# Altium integrated library Altera APEX 20K.IntLib: 93 symbols (part 8 of 14)
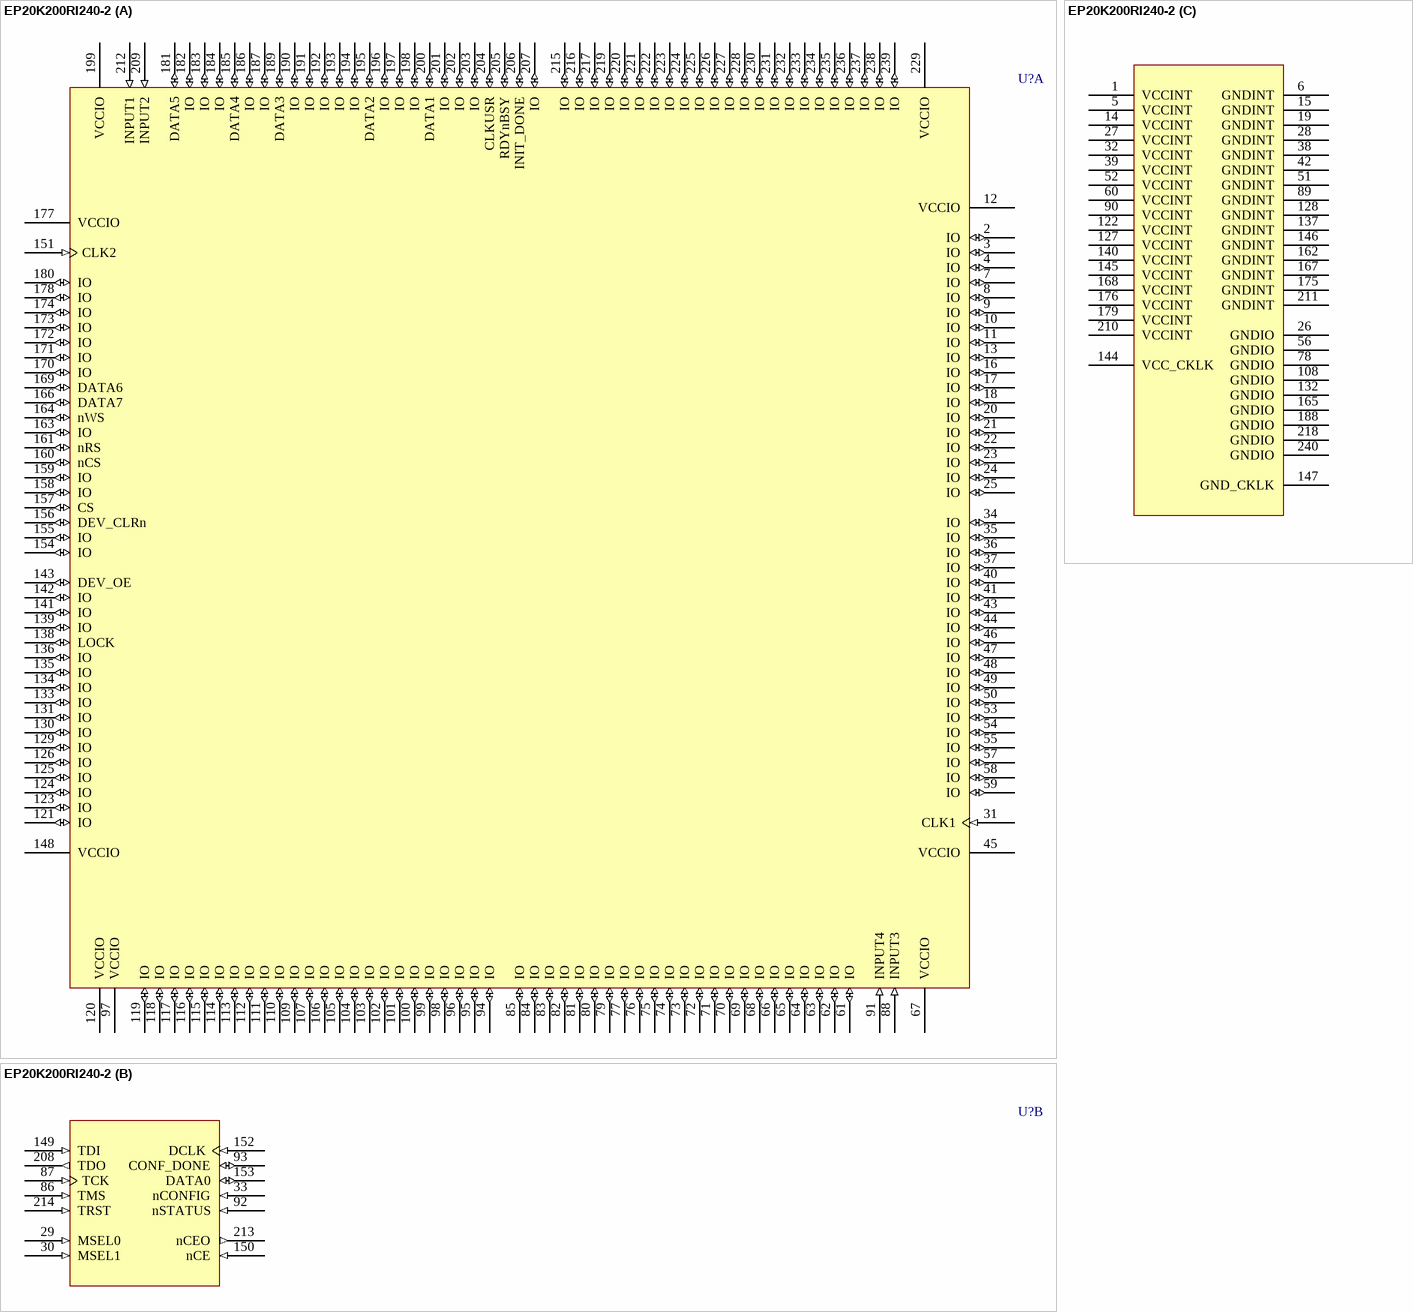
[diagram p209: symbol EP20K200RI240-2]

## EP20K200RI240-2
designator U?
APEX 20K200 PLD, 240-Pin RQFP, Industrial Grade, Speed Grade 2; Published: 17-Jul-2002; LatestRevisionDate: 13-Apr-2006; LatestRevisionNote: IPC-7351 Footprint Added.; DatasheetVersion: ver5.1, Mar-2004; PackageVersion: ver14.2, Oct-2005; PackageReference: RQFP240; Publisher: Altium Limited; PackageDescription: 240-Pin Power Quad Flat Pack (RQFP240); Code_JEDEC: MS-029-GA; ComponentLink1Description: Manufacturer Link; ComponentLink1URL: http://www.altera.com/products/devices/apex/apx-index.html; ComponentLink2Description: Datasheet; ComponentLink2URL: http://www.altera.com/literature/ds/apex.pdf
footprint RQFP240_N (Shrink QFP, 240-Leads, Body 32x32mm, Pitch 0.5mm, IPC Medium Density)
footprint RQFP240_L (Shrink QFP, 240-Leads, Body 32x32mm, Pitch 0.5mm, IPC High Density)
footprint RQFP240_M (Shrink QFP, 240-Leads, Body 32x32mm, Pitch 0.5mm, IPC Low Density)
3D model EP20K200-RQFP240 (240-Pin Power Quad Flat Pack (RQFP240))
part A pins: 2 IO (io), 3 IO (io), 4 IO (io), 7 IO (io), 8 IO (io), 9 IO (io), 10 IO (io), 11 IO (io), 12 VCCIO (power), 13 IO (io), 16 IO (io), 17 IO (io), 18 IO (io), 20 IO (io), 21 IO (io), 22 IO (io), 23 IO (io), 24 IO (io), 25 IO (io), 31 CLK1 (in), 34 IO (io), 35 IO (io), 36 IO (io), 37 IO (io), 40 IO (io), 41 IO (io), 43 IO (io), 44 IO (io), 45 VCCIO (power), 46 IO (io), 47 IO (io), 48 IO (io), 49 IO (io), 50 IO (io), 53 IO (io), 54 IO (io), 55 IO (io), 57 IO (io), 58 IO (io), 59 IO (io), 61 IO (io), 62 IO (io), 63 IO (io), 64 IO (io), 65 IO (io), 66 IO (io), 67 VCCIO (power), 68 IO (io), 69 IO (io), 70 IO (io), 71 IO (io), 72 IO (io), 73 IO (io), 74 IO (io), 75 IO (io), 76 IO (io), 77 IO (io), 79 IO (io), 80 IO (io), 81 IO (io), 82 IO (io), 83 IO (io), 84 IO (io), 85 IO (io), 88 INPUT3 (in), 91 INPUT4 (in), 94 IO (io), 95 IO (io), 96 IO (io), 97 VCCIO (power), 98 IO (io), 99 IO (io), 100 IO (io), 101 IO (io), 102 IO (io), 103 IO (io), 104 IO (io), 105 IO (io), 106 IO (io), 107 IO (io), 109 IO (io), 110 IO (io), 111 IO (io), 112 IO (io), 113 IO (io), 114 IO (io), 115 IO (io), 116 IO (io), 117 IO (io), 118 IO (io), 119 IO (io), 120 VCCIO (power), 121 IO (io), 123 IO (io), 124 IO (io), 125 IO (io), 126 IO (io), 129 IO (io), 130 IO (io), 131 IO (io), 133 IO (io), 134 IO (io), 135 IO (io), 136 IO (io), 138 LOCK (io), 139 IO (io), 141 IO (io), 142 IO (io), 143 DEV_OE (io), 148 VCCIO (power), 151 CLK2 (in), 154 IO (io), 155 IO (io), 156 DEV_CLRn (io), 157 CS (io), 158 IO (io), 159 IO (io), 160 nCS (io), 161 nRS (io), 163 IO (io), 164 nWS (io), 166 DATA7 (io), 169 DATA6 (io), 170 IO (io), 171 IO (io), 172 IO (io), 173 IO (io), 174 IO (io), 177 VCCIO (power), 178 IO (io), 180 IO (io), 181 DATA5 (io), 182 IO (io), 183 IO (io), 184 IO (io), 185 DATA4 (io), 186 IO (io), 187 IO (io), 189 DATA3 (io), 190 IO (io), 191 IO (io), 192 IO (io), 193 IO (io), 194 IO (io), 195 DATA2 (io), 196 IO (io), 197 IO (io), 198 IO (io), 199 VCCIO (power), 200 DATA1 (io), 201 IO (io), 202 IO (io), 203 IO (io), 204 CLKUSR (io), 205 RDYnBSY (io), 206 INIT_DONE (io), 207 IO (io), 209 INPUT2 (in), 212 INPUT1 (in), 215 IO (io), 216 IO (io), 217 IO (io), 219 IO (io), 220 IO (io), 221 IO (io), 222 IO (io), 223 IO (io), 224 IO (io), 225 IO (io), 226 IO (io), 227 IO (io), 228 IO (io), 229 VCCIO (power), 230 IO (io), 231 IO (io), 232 IO (io), 233 IO (io), 234 IO (io), 235 IO (io), 236 IO (io), 237 IO (io), 238 IO (io), 239 IO (io)
part B pins: 29 MSEL0 (in), 30 MSEL1 (in), 33 nCONFIG (in), 86 TMS (in), 87 TCK (in), 92 nSTATUS (in), 93 CONF_DONE (io), 149 TDI (in), 150 nCE (in), 152 DCLK (in), 153 DATA0 (io), 208 TDO (out), 213 nCEO (out), 214 TRST (in)
part C pins: 1 VCCINT (power), 5 VCCINT (power), 6 GNDINT (power), 14 VCCINT (power), 15 GNDINT (power), 19 GNDINT (power), 26 GNDIO (power), 27 VCCINT (power), 28 GNDINT (power), 32 VCCINT (power), 38 GNDINT (power), 39 VCCINT (power), 42 GNDINT (power), 51 GNDINT (power), 52 VCCINT (power), 56 GNDIO (power), 60 VCCINT (power), 78 GNDIO (power), 89 GNDINT (power), 90 VCCINT (power), 108 GNDIO (power), 122 VCCINT (power), 127 VCCINT (power), 128 GNDINT (power), 132 GNDIO (power), 137 GNDINT (power), 140 VCCINT (power), 144 VCC_CKLK (power), 145 VCCINT (power), 146 GNDINT (power), 147 GND_CKLK (power), 162 GNDINT (power), 165 GNDIO (power), 167 GNDINT (power), 168 VCCINT (power), 175 GNDINT (power), 176 VCCINT (power), 179 VCCINT (power), 188 GNDIO (power), 210 VCCINT (power), 211 GNDINT (power), 218 GNDIO (power), 240 GNDIO (power)

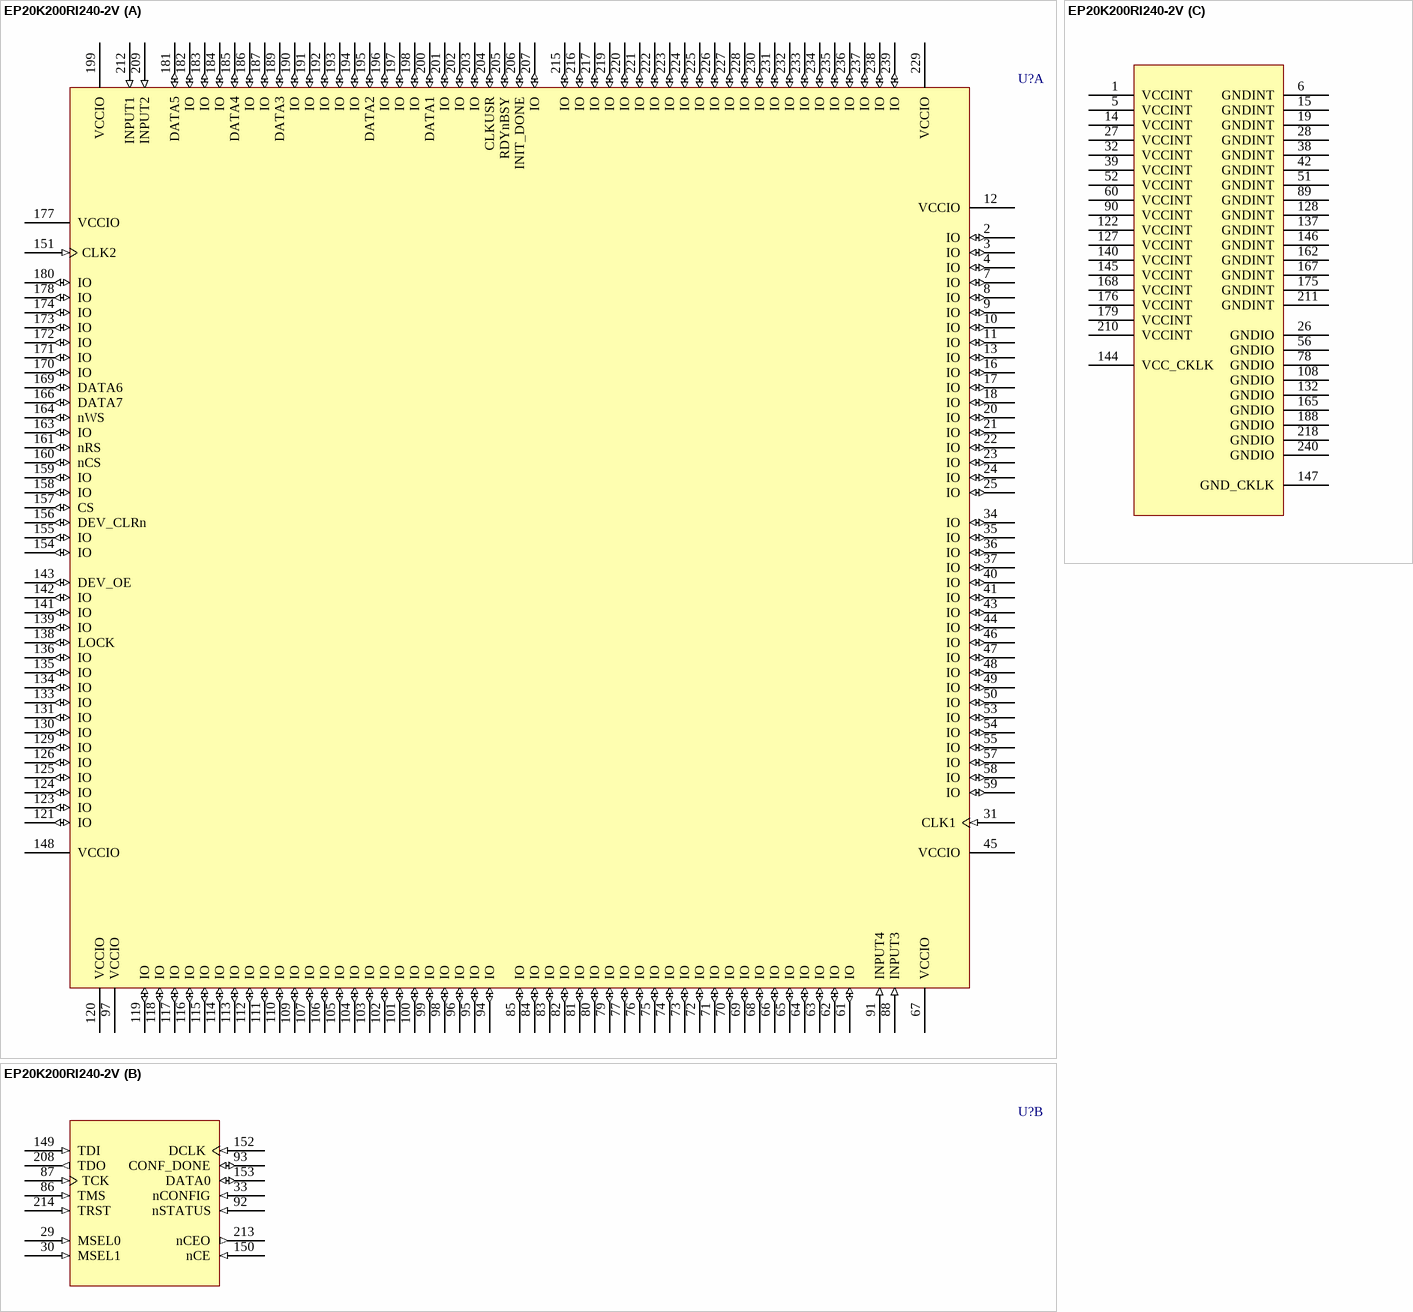
[diagram p87: symbol EP20K200RI240-2V]

## EP20K200RI240-2V
designator U?
APEX 20K200  PLD with 5 V tolerant inputs, 240-Pin RQFP, Industrial Grade, Speed Grade 2; ComponentAvailability: Last order accepted - 22-Jul-2005; Published: 17-Jul-2002; LatestRevisionDate: 13-Apr-2006; LatestRevisionNote: IPC-7351 Footprint Added.; DatasheetVersion: ver5.1, Mar-2004; PackageVersion: ver14.2, Oct-2005; PackageReference: RQFP240; Publisher: Altium Limited; PackageDescription: 240-Pin Power Quad Flat Pack (RQFP240); Code_JEDEC: MS-029-GA; ComponentLink1Description: Manufacturer Link; ComponentLink1URL: http://www.altera.com/products/devices/apex/apx-index.html; ComponentLink2Description: Datasheet; ComponentLink2URL: http://www.altera.com/literature/ds/apex.pdf; ComponentLink3Description: Discontinuation Notice; ComponentLink3URL: http://www.altera.com/literature/pcn/pdn0401.pdf
footprint RQFP240_N (Shrink QFP, 240-Leads, Body 32x32mm, Pitch 0.5mm, IPC Medium Density)
footprint RQFP240_L (Shrink QFP, 240-Leads, Body 32x32mm, Pitch 0.5mm, IPC High Density)
footprint RQFP240_M (Shrink QFP, 240-Leads, Body 32x32mm, Pitch 0.5mm, IPC Low Density)
3D model EP20K200-RQFP240 (240-Pin Power Quad Flat Pack (RQFP240))
part A pins: 2 IO (io), 3 IO (io), 4 IO (io), 7 IO (io), 8 IO (io), 9 IO (io), 10 IO (io), 11 IO (io), 12 VCCIO (power), 13 IO (io), 16 IO (io), 17 IO (io), 18 IO (io), 20 IO (io), 21 IO (io), 22 IO (io), 23 IO (io), 24 IO (io), 25 IO (io), 31 CLK1 (in), 34 IO (io), 35 IO (io), 36 IO (io), 37 IO (io), 40 IO (io), 41 IO (io), 43 IO (io), 44 IO (io), 45 VCCIO (power), 46 IO (io), 47 IO (io), 48 IO (io), 49 IO (io), 50 IO (io), 53 IO (io), 54 IO (io), 55 IO (io), 57 IO (io), 58 IO (io), 59 IO (io), 61 IO (io), 62 IO (io), 63 IO (io), 64 IO (io), 65 IO (io), 66 IO (io), 67 VCCIO (power), 68 IO (io), 69 IO (io), 70 IO (io), 71 IO (io), 72 IO (io), 73 IO (io), 74 IO (io), 75 IO (io), 76 IO (io), 77 IO (io), 79 IO (io), 80 IO (io), 81 IO (io), 82 IO (io), 83 IO (io), 84 IO (io), 85 IO (io), 88 INPUT3 (in), 91 INPUT4 (in), 94 IO (io), 95 IO (io), 96 IO (io), 97 VCCIO (power), 98 IO (io), 99 IO (io), 100 IO (io), 101 IO (io), 102 IO (io), 103 IO (io), 104 IO (io), 105 IO (io), 106 IO (io), 107 IO (io), 109 IO (io), 110 IO (io), 111 IO (io), 112 IO (io), 113 IO (io), 114 IO (io), 115 IO (io), 116 IO (io), 117 IO (io), 118 IO (io), 119 IO (io), 120 VCCIO (power), 121 IO (io), 123 IO (io), 124 IO (io), 125 IO (io), 126 IO (io), 129 IO (io), 130 IO (io), 131 IO (io), 133 IO (io), 134 IO (io), 135 IO (io), 136 IO (io), 138 LOCK (io), 139 IO (io), 141 IO (io), 142 IO (io), 143 DEV_OE (io), 148 VCCIO (power), 151 CLK2 (in), 154 IO (io), 155 IO (io), 156 DEV_CLRn (io), 157 CS (io), 158 IO (io), 159 IO (io), 160 nCS (io), 161 nRS (io), 163 IO (io), 164 nWS (io), 166 DATA7 (io), 169 DATA6 (io), 170 IO (io), 171 IO (io), 172 IO (io), 173 IO (io), 174 IO (io), 177 VCCIO (power), 178 IO (io), 180 IO (io), 181 DATA5 (io), 182 IO (io), 183 IO (io), 184 IO (io), 185 DATA4 (io), 186 IO (io), 187 IO (io), 189 DATA3 (io), 190 IO (io), 191 IO (io), 192 IO (io), 193 IO (io), 194 IO (io), 195 DATA2 (io), 196 IO (io), 197 IO (io), 198 IO (io), 199 VCCIO (power), 200 DATA1 (io), 201 IO (io), 202 IO (io), 203 IO (io), 204 CLKUSR (io), 205 RDYnBSY (io), 206 INIT_DONE (io), 207 IO (io), 209 INPUT2 (in), 212 INPUT1 (in), 215 IO (io), 216 IO (io), 217 IO (io), 219 IO (io), 220 IO (io), 221 IO (io), 222 IO (io), 223 IO (io), 224 IO (io), 225 IO (io), 226 IO (io), 227 IO (io), 228 IO (io), 229 VCCIO (power), 230 IO (io), 231 IO (io), 232 IO (io), 233 IO (io), 234 IO (io), 235 IO (io), 236 IO (io), 237 IO (io), 238 IO (io), 239 IO (io)
part B pins: 29 MSEL0 (in), 30 MSEL1 (in), 33 nCONFIG (in), 86 TMS (in), 87 TCK (in), 92 nSTATUS (in), 93 CONF_DONE (io), 149 TDI (in), 150 nCE (in), 152 DCLK (in), 153 DATA0 (io), 208 TDO (out), 213 nCEO (out), 214 TRST (in)
part C pins: 1 VCCINT (power), 5 VCCINT (power), 6 GNDINT (power), 14 VCCINT (power), 15 GNDINT (power), 19 GNDINT (power), 26 GNDIO (power), 27 VCCINT (power), 28 GNDINT (power), 32 VCCINT (power), 38 GNDINT (power), 39 VCCINT (power), 42 GNDINT (power), 51 GNDINT (power), 52 VCCINT (power), 56 GNDIO (power), 60 VCCINT (power), 78 GNDIO (power), 89 GNDINT (power), 90 VCCINT (power), 108 GNDIO (power), 122 VCCINT (power), 127 VCCINT (power), 128 GNDINT (power), 132 GNDIO (power), 137 GNDINT (power), 140 VCCINT (power), 144 VCC_CKLK (power), 145 VCCINT (power), 146 GNDINT (power), 147 GND_CKLK (power), 162 GNDINT (power), 165 GNDIO (power), 167 GNDINT (power), 168 VCCINT (power), 175 GNDINT (power), 176 VCCINT (power), 179 VCCINT (power), 188 GNDIO (power), 210 VCCINT (power), 211 GNDINT (power), 218 GNDIO (power), 240 GNDIO (power)

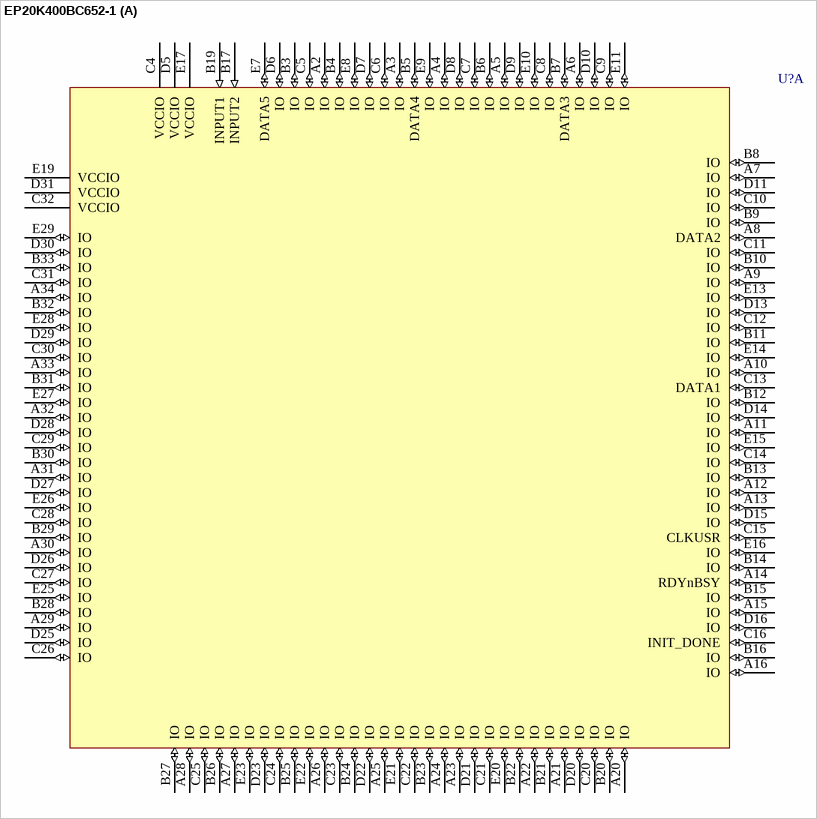
[diagram p88: symbol EP20K400BC652-1]

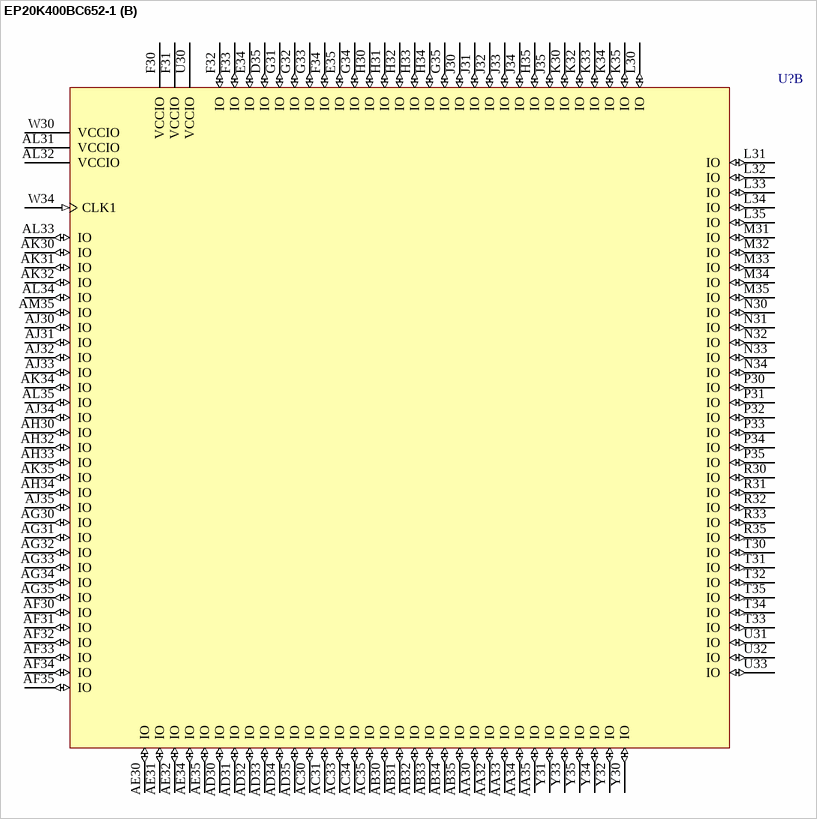
[diagram p89: symbol EP20K400BC652-1]

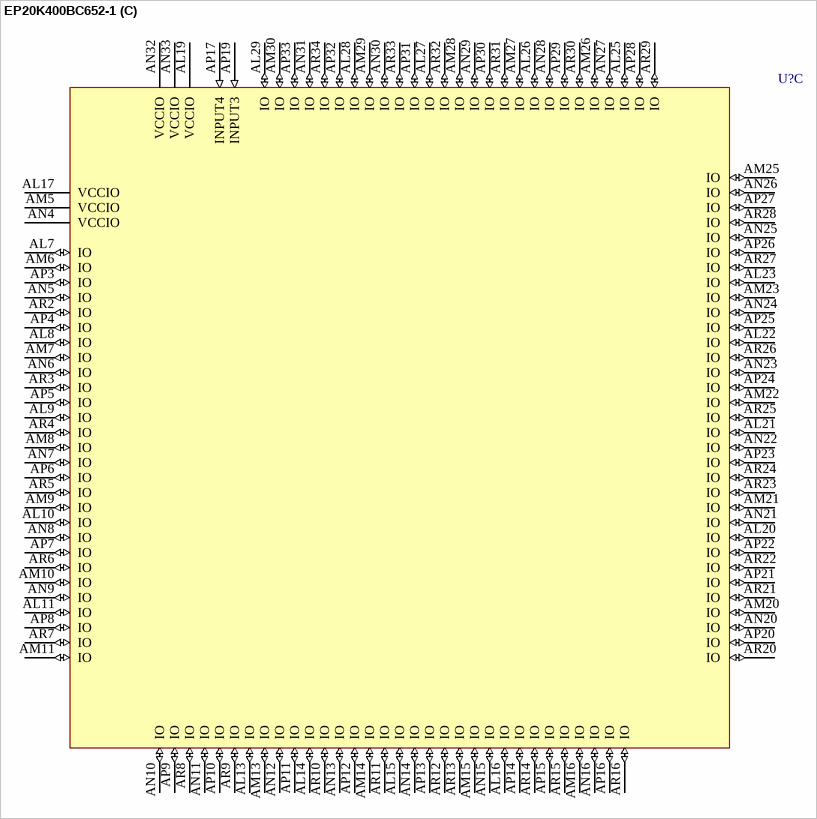
[diagram p90: symbol EP20K400BC652-1]

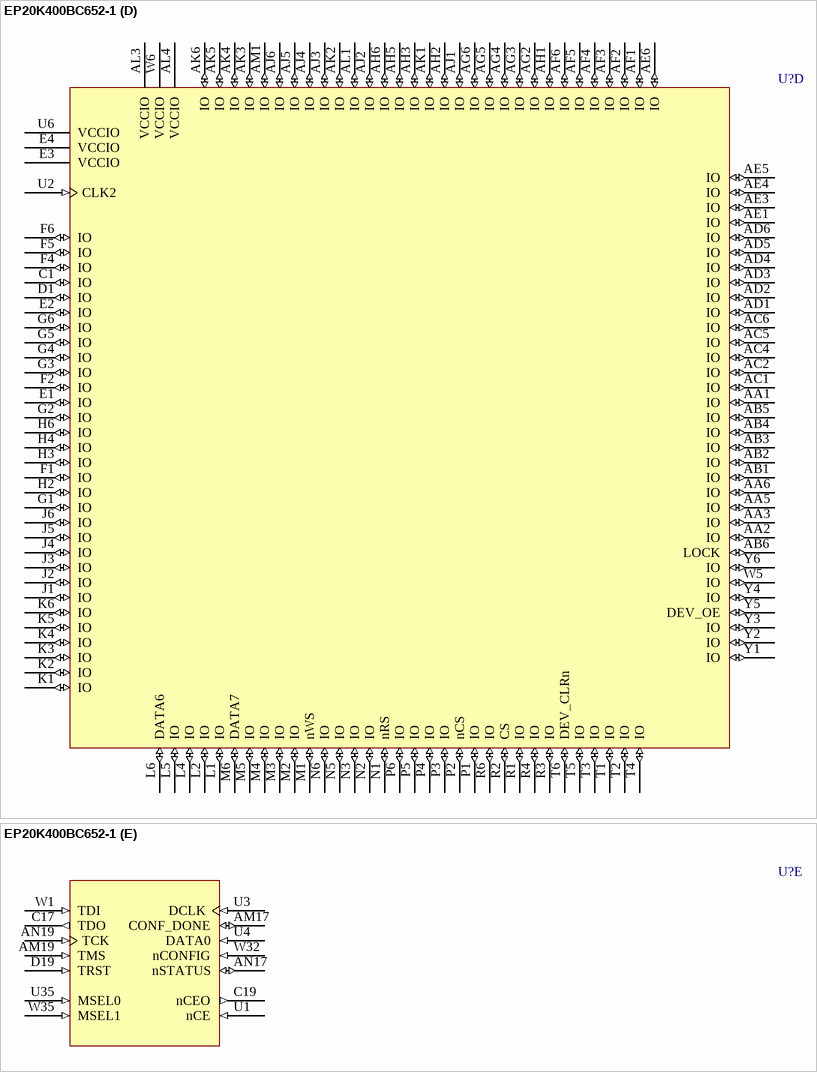
[diagram p91: symbol EP20K400BC652-1]

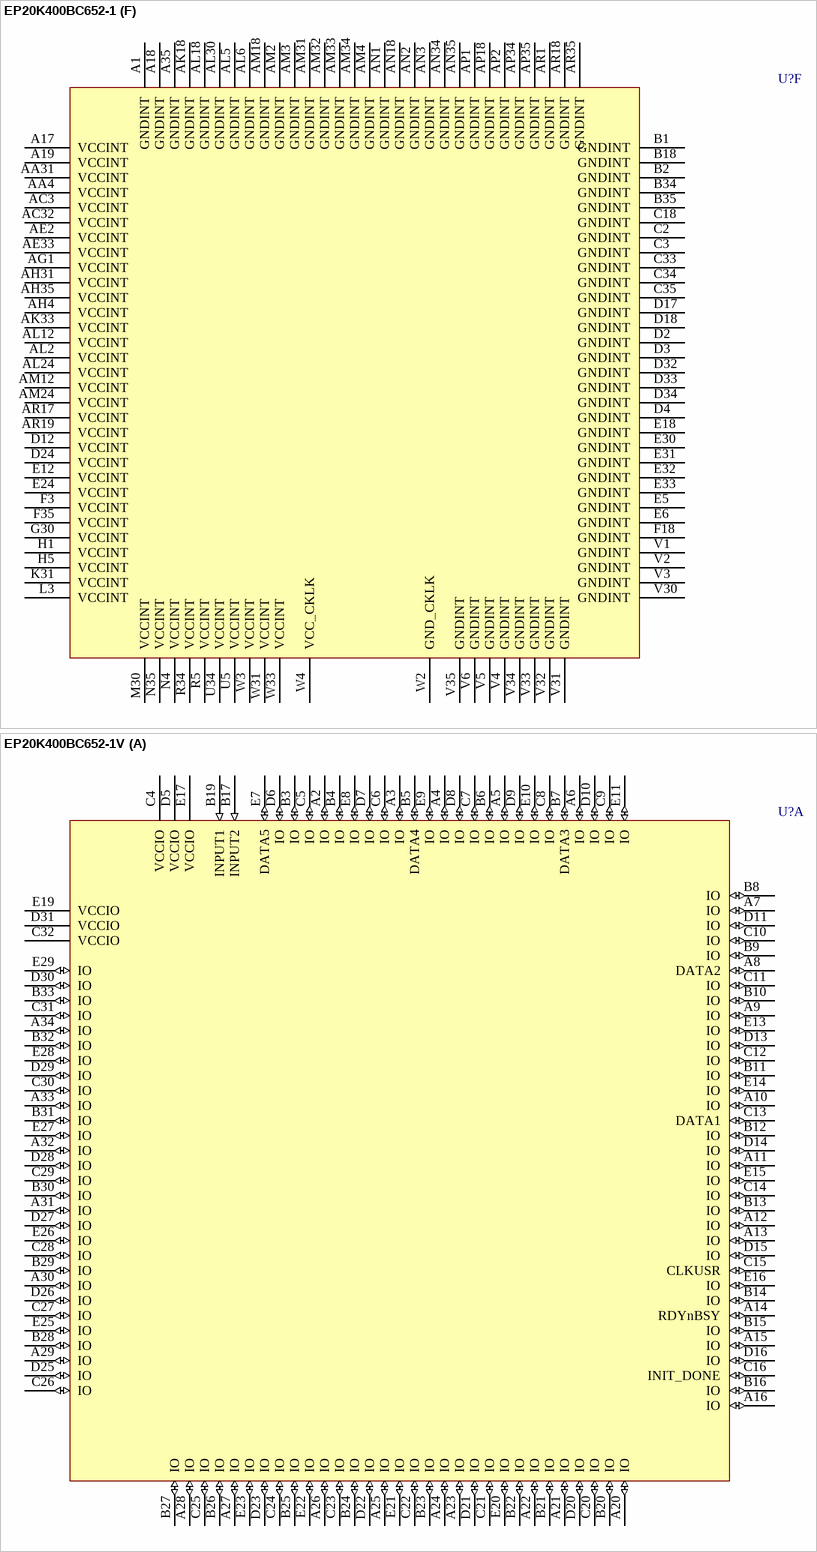
[diagram p92: symbols EP20K400BC652-1 to EP20K400BC652-1V]

## EP20K400BC652-1
designator U?
APEX 20K400 PLD, 652-Pin BGA, Commercial Grade, Speed Grade 1; Published: 17-Jul-2002; LatestRevisionDate: 13-Apr-2006; LatestRevisionNote: IPC-7351 Footprint Added.; DatasheetVersion: ver5.1, Mar-2004; PackageVersion: ver14.2, Oct-2005; PackageReference: BGA652; Publisher: Altium Limited; PackageDescription: 652-Ball Ball Grid Array (BGA652), Option 1 - Flip Chip; Code_JEDEC: MO-192-BAW-1; ComponentLink1Description: Manufacturer Link; ComponentLink1URL: http://www.altera.com/products/devices/apex/apx-index.html; ComponentLink2Description: Datasheet; ComponentLink2URL: http://www.altera.com/literature/ds/apex.pdf
footprint BGA652 (BGA, 652-Leads, Body 45x45mm, Pitch 1.27mm)
3D model EP20K400-BGA652TD (652-Ball Ball Grid Array (BGA652), Option 1 - Flip Chip)
part A pins: A2 IO (io), A3 IO (io), A4 IO (io), A5 IO (io), A6 IO (io), A7 IO (io), A8 DATA2 (io), A9 IO (io), A10 IO (io), A11 IO (io), A12 IO (io), A13 IO (io), A14 RDYnBSY (io), A15 IO (io), A16 IO (io), A20 IO (io), A21 IO (io), A22 IO (io), A23 IO (io), A24 IO (io), A25 IO (io), A26 IO (io), A27 IO (io), A28 IO (io), A29 IO (io), A30 IO (io), A31 IO (io), A32 IO (io), A33 IO (io), A34 IO (io), B3 IO (io), B4 IO (io), B5 DATA4 (io), B6 IO (io), B7 DATA3 (io), B8 IO (io), B9 IO (io), B10 IO (io), B11 IO (io), B12 IO (io), B13 IO (io), B14 IO (io), B15 IO (io), B16 IO (io), B17 INPUT2 (in), B19 INPUT1 (in), B20 IO (io), B21 IO (io), B22 IO (io), B23 IO (io), B24 IO (io), B25 IO (io), B26 IO (io), B27 IO (io), B28 IO (io), B29 IO (io), B30 IO (io), B31 IO (io), B32 IO (io), B33 IO (io), C4 VCCIO (power), C5 IO (io), C6 IO (io), C7 IO (io), C8 IO (io), C9 IO (io), C10 IO (io), C11 IO (io), C12 IO (io), C13 DATA1 (io), C14 IO (io), C15 CLKUSR (io), C16 INIT_DONE (io), C20 IO (io), C21 IO (io), C22 IO (io), C23 IO (io), C24 IO (io), C25 IO (io), C26 IO (io), C27 IO (io), C28 IO (io), C29 IO (io), C30 IO (io), C31 IO (io), C32 VCCIO (power), D5 VCCIO (power), D6 IO (io), D7 IO (io), D8 IO (io), D9 IO (io), D10 IO (io), D11 IO (io), D13 IO (io), D14 IO (io), D15 IO (io), D16 IO (io), D20 IO (io), D21 IO (io), D22 IO (io), D23 IO (io), D25 IO (io), D26 IO (io), D27 IO (io), D28 IO (io), D29 IO (io), D30 IO (io), D31 VCCIO (power), E7 DATA5 (io), E8 IO (io), E9 IO (io), E10 IO (io), E11 IO (io), E13 IO (io), E14 IO (io), E15 IO (io), E16 IO (io), E17 VCCIO (power), E19 VCCIO (power), E20 IO (io), E21 IO (io), E22 IO (io), E23 IO (io), E25 IO (io), E26 IO (io), E27 IO (io), E28 IO (io), E29 IO (io)
part B pins: AA30 IO (io), AA32 IO (io), AA33 IO (io), AA34 IO (io), AA35 IO (io), AB30 IO (io), AB31 IO (io), AB32 IO (io), AB33 IO (io), AB34 IO (io), AB35 IO (io), AC30 IO (io), AC31 IO (io), AC33 IO (io), AC34 IO (io), AC35 IO (io), AD30 IO (io), AD31 IO (io), AD32 IO (io), AD33 IO (io), AD34 IO (io), AD35 IO (io), AE30 IO (io), AE31 IO (io), AE32 IO (io), AE34 IO (io), AE35 IO (io), AF30 IO (io), AF31 IO (io), AF32 IO (io), AF33 IO (io), AF34 IO (io), AF35 IO (io), AG30 IO (io), AG31 IO (io), AG32 IO (io), AG33 IO (io), AG34 IO (io), AG35 IO (io), AH30 IO (io), AH32 IO (io), AH33 IO (io), AH34 IO (io), AJ30 IO (io), AJ31 IO (io), AJ32 IO (io), AJ33 IO (io), AJ34 IO (io), AJ35 IO (io), AK30 IO (io), AK31 IO (io), AK32 IO (io), AK34 IO (io), AK35 IO (io), AL31 VCCIO (power), AL32 VCCIO (power), AL33 IO (io), AL34 IO (io), AL35 IO (io), AM35 IO (io), D35 IO (io), E34 IO (io), E35 IO (io), F30 VCCIO (power), F31 VCCIO (power), F32 IO (io), F33 IO (io), F34 IO (io), G31 IO (io), G32 IO (io), G33 IO (io), G34 IO (io), G35 IO (io), H30 IO (io), H31 IO (io), H32 IO (io), H33 IO (io), H34 IO (io), H35 IO (io), J30 IO (io), J31 IO (io), J32 IO (io), J33 IO (io), J34 IO (io), J35 IO (io), K30 IO (io), K32 IO (io), K33 IO (io), K34 IO (io), K35 IO (io), L30 IO (io), L31 IO (io), L32 IO (io), L33 IO (io), L34 IO (io), L35 IO (io), M31 IO (io), M32 IO (io), M33 IO (io), M34 IO (io), M35 IO (io), N30 IO (io), N31 IO (io), N32 IO (io), N33 IO (io), N34 IO (io), P30 IO (io), P31 IO (io), P32 IO (io), P33 IO (io), P34 IO (io), P35 IO (io), R30 IO (io), R31 IO (io), R32 IO (io), R33 IO (io), R35 IO (io), T30 IO (io), T31 IO (io), T32 IO (io), T33 IO (io), T34 IO (io), T35 IO (io), U30 VCCIO (power), U31 IO (io), U32 IO (io), U33 IO (io), W30 VCCIO (power), W34 CLK1 (in), Y30 IO (io), Y31 IO (io), Y32 IO (io), Y33 IO (io), Y34 IO (io), Y35 IO (io)
part C pins: AL7 IO (io), AL8 IO (io), AL9 IO (io), AL10 IO (io), AL11 IO (io), AL13 IO (io), AL14 IO (io), AL15 IO (io), AL16 IO (io), AL17 VCCIO (power), AL19 VCCIO (power), AL20 IO (io), AL21 IO (io), AL22 IO (io), AL23 IO (io), AL25 IO (io), AL26 IO (io), AL27 IO (io), AL28 IO (io), AL29 IO (io), AM5 VCCIO (power), AM6 IO (io), AM7 IO (io), AM8 IO (io), AM9 IO (io), AM10 IO (io), AM11 IO (io), AM13 IO (io), AM14 IO (io), AM15 IO (io), AM16 IO (io), AM20 IO (io), AM21 IO (io), AM22 IO (io), AM23 IO (io), AM25 IO (io), AM26 IO (io), AM27 IO (io), AM28 IO (io), AM29 IO (io), AM30 IO (io), AN4 VCCIO (power), AN5 IO (io), AN6 IO (io), AN7 IO (io), AN8 IO (io), AN9 IO (io), AN10 IO (io), AN11 IO (io), AN12 IO (io), AN13 IO (io), AN14 IO (io), AN15 IO (io), AN16 IO (io), AN20 IO (io), AN21 IO (io), AN22 IO (io), AN23 IO (io), AN24 IO (io), AN25 IO (io), AN26 IO (io), AN27 IO (io), AN28 IO (io), AN29 IO (io), AN30 IO (io), AN31 IO (io), AN32 VCCIO (power), AN33 VCCIO (power), AP3 IO (io), AP4 IO (io), AP5 IO (io), AP6 IO (io), AP7 IO (io), AP8 IO (io), AP9 IO (io), AP10 IO (io), AP11 IO (io), AP12 IO (io), AP13 IO (io), AP14 IO (io), AP15 IO (io), AP16 IO (io), AP17 INPUT4 (in), AP19 INPUT3 (in), AP20 IO (io), AP21 IO (io), AP22 IO (io), AP23 IO (io), AP24 IO (io), AP25 IO (io), AP26 IO (io), AP27 IO (io), AP28 IO (io), AP29 IO (io), AP30 IO (io), AP31 IO (io), AP32 IO (io), AP33 IO (io), AR2 IO (io), AR3 IO (io), AR4 IO (io), AR5 IO (io), AR6 IO (io), AR7 IO (io), AR8 IO (io), AR9 IO (io), AR10 IO (io), AR11 IO (io), AR12 IO (io), AR13 IO (io), AR14 IO (io), AR15 IO (io), AR16 IO (io), AR20 IO (io), AR21 IO (io), AR22 IO (io), AR23 IO (io), AR24 IO (io), AR25 IO (io), AR26 IO (io), AR27 IO (io), AR28 IO (io), AR29 IO (io), AR30 IO (io), AR31 IO (io), AR32 IO (io), AR33 IO (io), AR34 IO (io)
part D pins: AA1 IO (io), AA2 IO (io), AA3 IO (io), AA5 IO (io), AA6 IO (io), AB1 IO (io), AB2 IO (io), AB3 IO (io), AB4 IO (io), AB5 IO (io), AB6 LOCK (io), AC1 IO (io), AC2 IO (io), AC4 IO (io), AC5 IO (io), AC6 IO (io), AD1 IO (io), AD2 IO (io), AD3 IO (io), AD4 IO (io), AD5 IO (io), AD6 IO (io), AE1 IO (io), AE3 IO (io), AE4 IO (io), AE5 IO (io), AE6 IO (io), AF1 IO (io), AF2 IO (io), AF3 IO (io), AF4 IO (io), AF5 IO (io), AF6 IO (io), AG2 IO (io), AG3 IO (io), AG4 IO (io), AG5 IO (io), AG6 IO (io), AH1 IO (io), AH2 IO (io), AH3 IO (io), AH5 IO (io), AH6 IO (io), AJ1 IO (io), AJ2 IO (io), AJ3 IO (io), AJ4 IO (io), AJ5 IO (io), AJ6 IO (io), AK1 IO (io), AK2 IO (io), AK3 IO (io), AK4 IO (io), AK5 IO (io), AK6 IO (io), AL1 IO (io), AL3 VCCIO (power), AL4 VCCIO (power), AM1 IO (io), C1 IO (io), D1 IO (io), E1 IO (io), E2 IO (io), E3 VCCIO (power), E4 VCCIO (power), F1 IO (io), F2 IO (io), F4 IO (io), F5 IO (io), F6 IO (io), G1 IO (io), G2 IO (io), G3 IO (io), G4 IO (io), G5 IO (io), G6 IO (io), H2 IO (io), H3 IO (io), H4 IO (io), H6 IO (io), J1 IO (io), J2 IO (io), J3 IO (io), J4 IO (io), J5 IO (io), J6 IO (io), K1 IO (io), K2 IO (io), K3 IO (io), K4 IO (io), K5 IO (io), K6 IO (io), L1 IO (io), L2 IO (io), L4 IO (io), L5 IO (io), L6 DATA6 (io), M1 nWS (io), M2 IO (io), M3 IO (io), M4 IO (io), M5 IO (io), M6 DATA7 (io), N1 nRS (io), N2 IO (io), N3 IO (io), N5 IO (io), N6 IO (io), P1 IO (io), P2 nCS (io), P3 IO (io), P4 IO (io), P5 IO (io), P6 IO (io), R1 IO (io), R2 CS (io), R3 IO (io), R4 IO (io), R6 IO (io), T1 IO (io), T2 IO (io), T3 IO (io), T4 IO (io), T5 IO (io), T6 DEV_CLRn (io), U2 CLK2 (in), U6 VCCIO (power), W5 IO (io), W6 VCCIO (power), Y1 IO (io), Y2 IO (io), Y3 IO (io), Y4 IO (io), Y5 DEV_OE (io), Y6 IO (io)
part E pins: AM17 CONF_DONE (io), AM19 TMS (in), AN17 nSTATUS (io), AN19 TCK (in), C17 TDO (out), C19 nCEO (out), D19 TRST (in), U1 nCE (in), U3 DCLK (in), U4 DATA0 (in), U35 MSEL0 (in), W1 TDI (in), W32 nCONFIG (in), W35 MSEL1 (in)
part F pins: A1 GNDINT (power), A17 VCCINT (power), A18 GNDINT (power), A19 VCCINT (power), A35 GNDINT (power), AA4 VCCINT (power), AA31 VCCINT (power), AC3 VCCINT (power), AC32 VCCINT (power), AE2 VCCINT (power), AE33 VCCINT (power), AG1 VCCINT (power), AH4 VCCINT (power), AH31 VCCINT (power), AH35 VCCINT (power), AK18 GNDINT (power), AK33 VCCINT (power), AL2 VCCINT (power), AL5 GNDINT (power), AL6 GNDINT (power), AL12 VCCINT (power), AL18 GNDINT (power), AL24 VCCINT (power), AL30 GNDINT (power), AM2 GNDINT (power), AM3 GNDINT (power), AM4 GNDINT (power), AM12 VCCINT (power), AM18 GNDINT (power), AM24 VCCINT (power), AM31 GNDINT (power), AM32 GNDINT (power), AM33 GNDINT (power), AM34 GNDINT (power), AN1 GNDINT (power), AN2 GNDINT (power), AN3 GNDINT (power), AN18 GNDINT (power), AN34 GNDINT (power), AN35 GNDINT (power), AP1 GNDINT (power), AP2 GNDINT (power), AP18 GNDINT (power), AP34 GNDINT (power), AP35 GNDINT (power), AR1 GNDINT (power), AR17 VCCINT (power), AR18 GNDINT (power), AR19 VCCINT (power), AR35 GNDINT (power), B1 GNDINT (power), B2 GNDINT (power), B18 GNDINT (power), B34 GNDINT (power), B35 GNDINT (power), C2 GNDINT (power), C3 GNDINT (power), C18 GNDINT (power), C33 GNDINT (power), C34 GNDINT (power), C35 GNDINT (power), D2 GNDINT (power), D3 GNDINT (power), D4 GNDINT (power), D12 VCCINT (power), D17 GNDINT (power), D18 GNDINT (power), D24 VCCINT (power), D32 GNDINT (power), D33 GNDINT (power), D34 GNDINT (power), E5 GNDINT (power), E6 GNDINT (power), E12 VCCINT (power), E18 GNDINT (power), E24 VCCINT (power), E30 GNDINT (power), E31 GNDINT (power), E32 GNDINT (power), E33 GNDINT (power), F3 VCCINT (power), F18 GNDINT (power), F35 VCCINT (power), G30 VCCINT (power), H1 VCCINT (power), H5 VCCINT (power), K31 VCCINT (power), L3 VCCINT (power), M30 VCCINT (power), N4 VCCINT (power), N35 VCCINT (power), R5 VCCINT (power), R34 VCCINT (power), U5 VCCINT (power), U34 VCCINT (power), V1 GNDINT (power), V2 GNDINT (power), V3 GNDINT (power), V4 GNDINT (power), V5 GNDINT (power), V6 GNDINT (power), V30 GNDINT (power), V31 GNDINT (power), V32 GNDINT (power), V33 GNDINT (power), V34 GNDINT (power), V35 GNDINT (power), W2 GND_CKLK (power), W3 VCCINT (power), W4 VCC_CKLK (power), W31 VCCINT (power), W33 VCCINT (power)

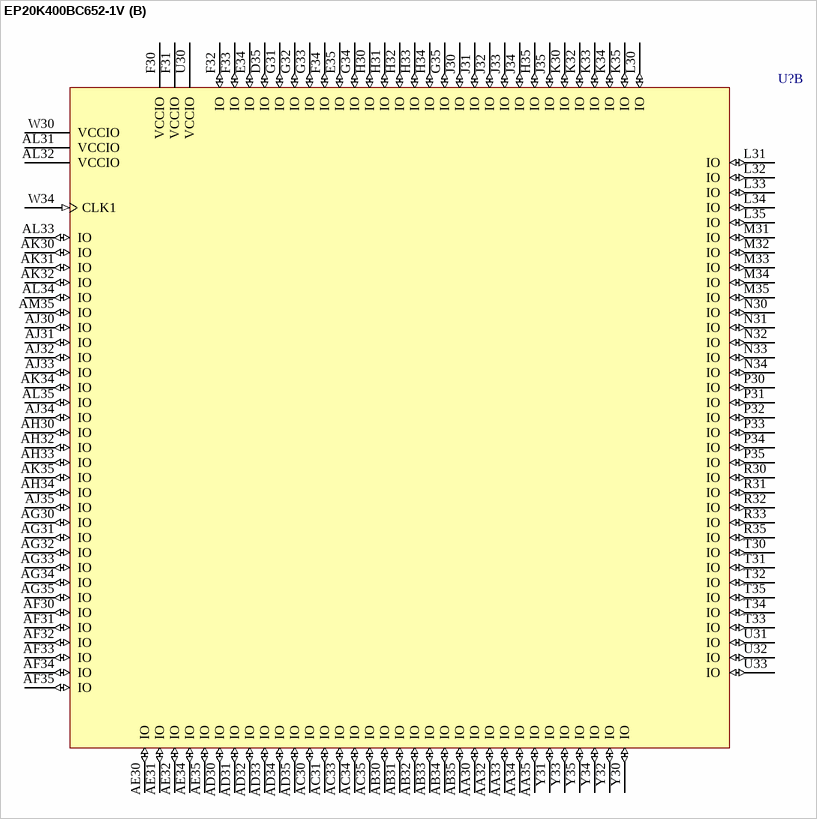
[diagram p93: symbol EP20K400BC652-1V]

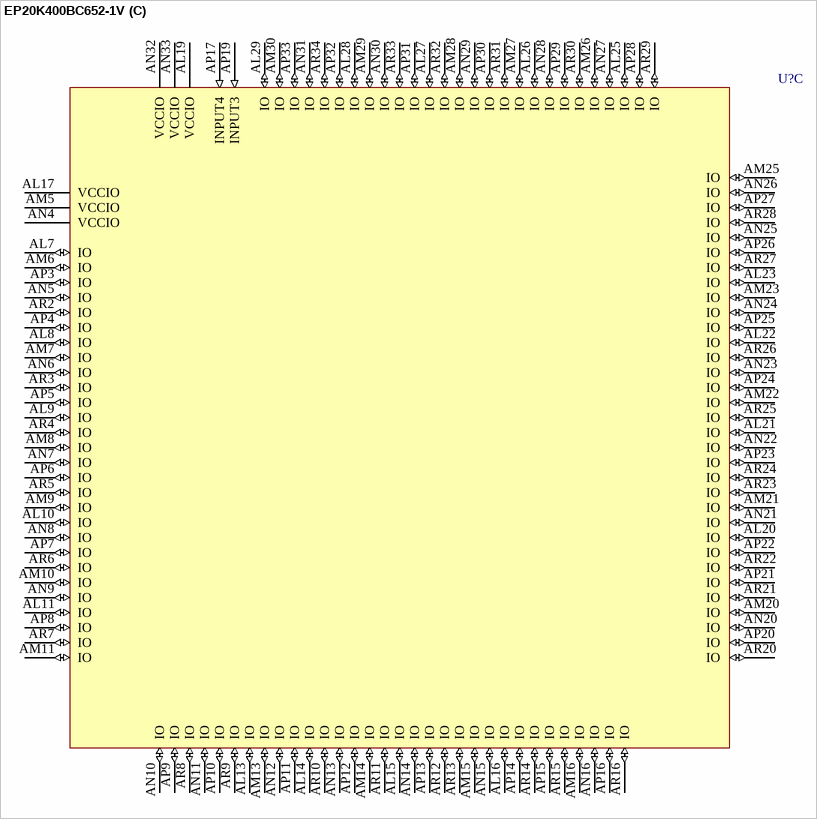
[diagram p94: symbol EP20K400BC652-1V]

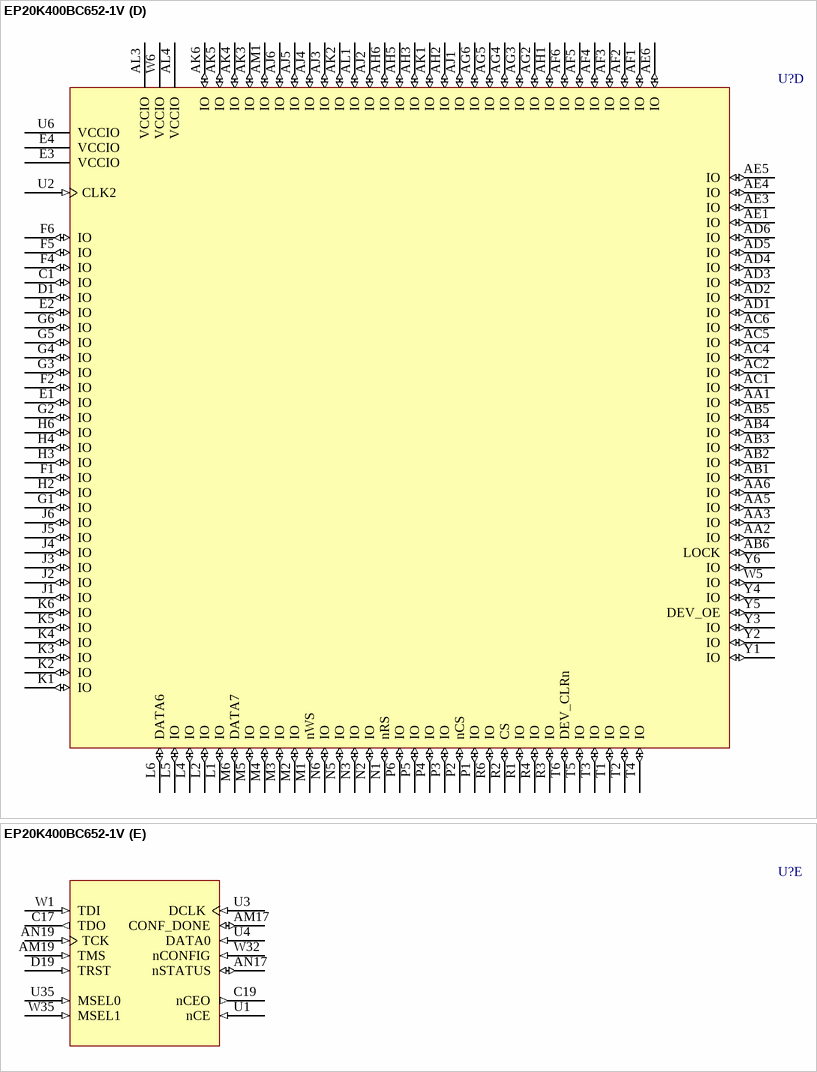
[diagram p95: symbol EP20K400BC652-1V]

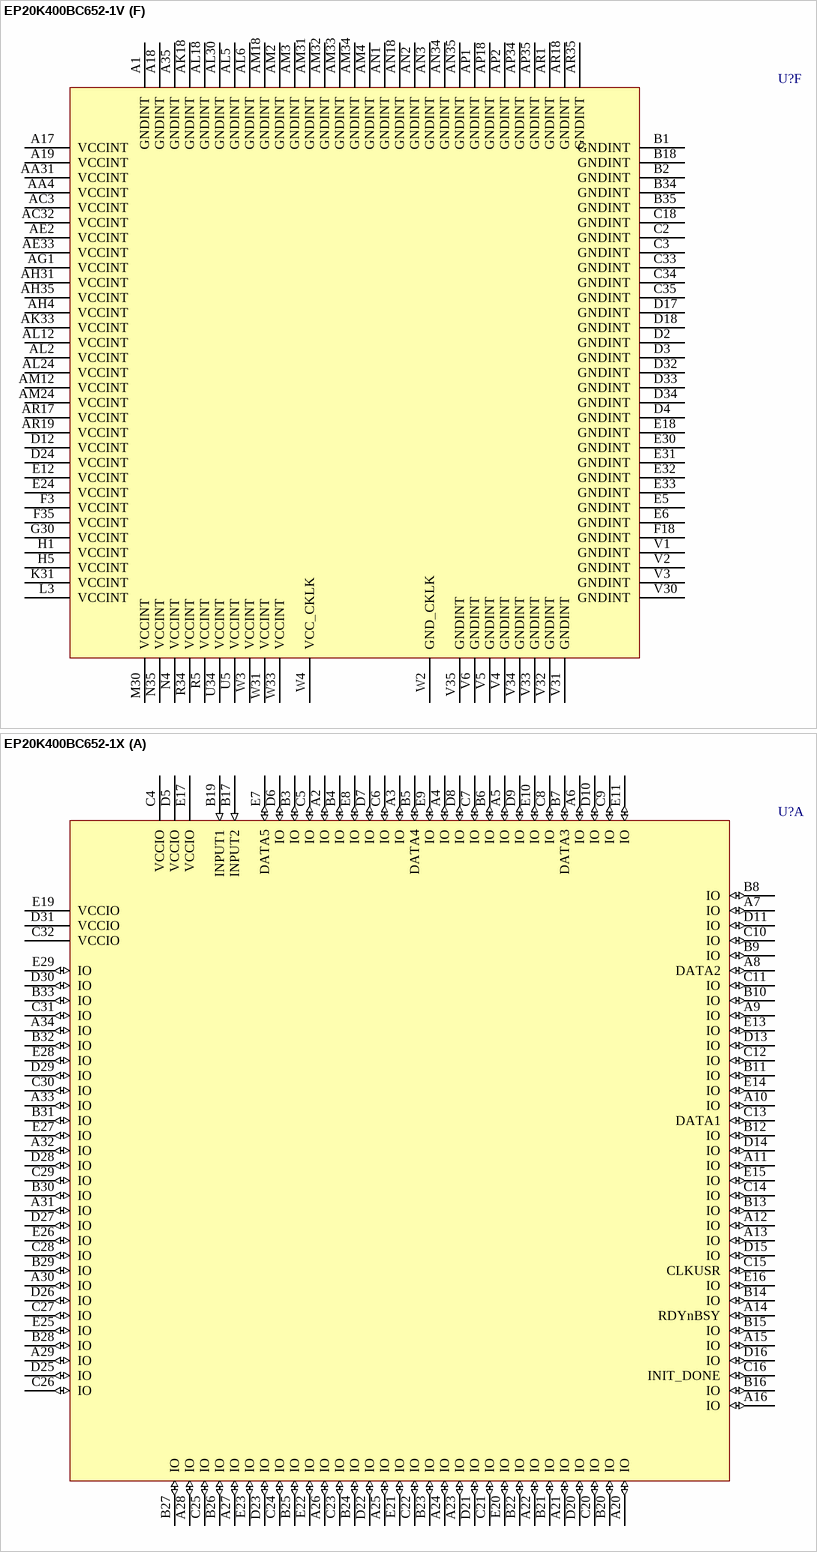
[diagram p96: symbols EP20K400BC652-1V to EP20K400BC652-1X]

## EP20K400BC652-1V
designator U?
APEX 20K100 PLD with 5 V tolerant inputs, 652-Pin BGA, Commercial Grade, Speed Grade 1; ComponentAvailability: Last order accepted - 22-Jul-2005; Published: 17-Jul-2002; LatestRevisionDate: 13-Apr-2006; LatestRevisionNote: IPC-7351 Footprint Added.; DatasheetVersion: ver5.1, Mar-2004; PackageVersion: ver14.2, Oct-2005; PackageReference: BGA652; Publisher: Altium Limited; PackageDescription: 652-Ball Ball Grid Array (BGA652), Option 1 - Flip Chip; Code_JEDEC: MO-192-BAW-1; ComponentLink1Description: Manufacturer Link; ComponentLink1URL: http://www.altera.com/products/devices/apex/apx-index.html; ComponentLink2Description: Datasheet; ComponentLink2URL: http://www.altera.com/literature/ds/apex.pdf; ComponentLink3Description: Discontinuation Notice; ComponentLink3URL: http://www.altera.com/literature/pcn/pdn0401.pdf
footprint BGA652 (BGA, 652-Leads, Body 45x45mm, Pitch 1.27mm)
3D model EP20K400-BGA652TD (652-Ball Ball Grid Array (BGA652), Option 1 - Flip Chip)
part A pins: A2 IO (io), A3 IO (io), A4 IO (io), A5 IO (io), A6 IO (io), A7 IO (io), A8 DATA2 (io), A9 IO (io), A10 IO (io), A11 IO (io), A12 IO (io), A13 IO (io), A14 RDYnBSY (io), A15 IO (io), A16 IO (io), A20 IO (io), A21 IO (io), A22 IO (io), A23 IO (io), A24 IO (io), A25 IO (io), A26 IO (io), A27 IO (io), A28 IO (io), A29 IO (io), A30 IO (io), A31 IO (io), A32 IO (io), A33 IO (io), A34 IO (io), B3 IO (io), B4 IO (io), B5 DATA4 (io), B6 IO (io), B7 DATA3 (io), B8 IO (io), B9 IO (io), B10 IO (io), B11 IO (io), B12 IO (io), B13 IO (io), B14 IO (io), B15 IO (io), B16 IO (io), B17 INPUT2 (in), B19 INPUT1 (in), B20 IO (io), B21 IO (io), B22 IO (io), B23 IO (io), B24 IO (io), B25 IO (io), B26 IO (io), B27 IO (io), B28 IO (io), B29 IO (io), B30 IO (io), B31 IO (io), B32 IO (io), B33 IO (io), C4 VCCIO (power), C5 IO (io), C6 IO (io), C7 IO (io), C8 IO (io), C9 IO (io), C10 IO (io), C11 IO (io), C12 IO (io), C13 DATA1 (io), C14 IO (io), C15 CLKUSR (io), C16 INIT_DONE (io), C20 IO (io), C21 IO (io), C22 IO (io), C23 IO (io), C24 IO (io), C25 IO (io), C26 IO (io), C27 IO (io), C28 IO (io), C29 IO (io), C30 IO (io), C31 IO (io), C32 VCCIO (power), D5 VCCIO (power), D6 IO (io), D7 IO (io), D8 IO (io), D9 IO (io), D10 IO (io), D11 IO (io), D13 IO (io), D14 IO (io), D15 IO (io), D16 IO (io), D20 IO (io), D21 IO (io), D22 IO (io), D23 IO (io), D25 IO (io), D26 IO (io), D27 IO (io), D28 IO (io), D29 IO (io), D30 IO (io), D31 VCCIO (power), E7 DATA5 (io), E8 IO (io), E9 IO (io), E10 IO (io), E11 IO (io), E13 IO (io), E14 IO (io), E15 IO (io), E16 IO (io), E17 VCCIO (power), E19 VCCIO (power), E20 IO (io), E21 IO (io), E22 IO (io), E23 IO (io), E25 IO (io), E26 IO (io), E27 IO (io), E28 IO (io), E29 IO (io)
part B pins: AA30 IO (io), AA32 IO (io), AA33 IO (io), AA34 IO (io), AA35 IO (io), AB30 IO (io), AB31 IO (io), AB32 IO (io), AB33 IO (io), AB34 IO (io), AB35 IO (io), AC30 IO (io), AC31 IO (io), AC33 IO (io), AC34 IO (io), AC35 IO (io), AD30 IO (io), AD31 IO (io), AD32 IO (io), AD33 IO (io), AD34 IO (io), AD35 IO (io), AE30 IO (io), AE31 IO (io), AE32 IO (io), AE34 IO (io), AE35 IO (io), AF30 IO (io), AF31 IO (io), AF32 IO (io), AF33 IO (io), AF34 IO (io), AF35 IO (io), AG30 IO (io), AG31 IO (io), AG32 IO (io), AG33 IO (io), AG34 IO (io), AG35 IO (io), AH30 IO (io), AH32 IO (io), AH33 IO (io), AH34 IO (io), AJ30 IO (io), AJ31 IO (io), AJ32 IO (io), AJ33 IO (io), AJ34 IO (io), AJ35 IO (io), AK30 IO (io), AK31 IO (io), AK32 IO (io), AK34 IO (io), AK35 IO (io), AL31 VCCIO (power), AL32 VCCIO (power), AL33 IO (io), AL34 IO (io), AL35 IO (io), AM35 IO (io), D35 IO (io), E34 IO (io), E35 IO (io), F30 VCCIO (power), F31 VCCIO (power), F32 IO (io), F33 IO (io), F34 IO (io), G31 IO (io), G32 IO (io), G33 IO (io), G34 IO (io), G35 IO (io), H30 IO (io), H31 IO (io), H32 IO (io), H33 IO (io), H34 IO (io), H35 IO (io), J30 IO (io), J31 IO (io), J32 IO (io), J33 IO (io), J34 IO (io), J35 IO (io), K30 IO (io), K32 IO (io), K33 IO (io), K34 IO (io), K35 IO (io), L30 IO (io), L31 IO (io), L32 IO (io), L33 IO (io), L34 IO (io), L35 IO (io), M31 IO (io), M32 IO (io), M33 IO (io), M34 IO (io), M35 IO (io), N30 IO (io), N31 IO (io), N32 IO (io), N33 IO (io), N34 IO (io), P30 IO (io), P31 IO (io), P32 IO (io), P33 IO (io), P34 IO (io), P35 IO (io), R30 IO (io), R31 IO (io), R32 IO (io), R33 IO (io), R35 IO (io), T30 IO (io), T31 IO (io), T32 IO (io), T33 IO (io), T34 IO (io), T35 IO (io), U30 VCCIO (power), U31 IO (io), U32 IO (io), U33 IO (io), W30 VCCIO (power), W34 CLK1 (in), Y30 IO (io), Y31 IO (io), Y32 IO (io), Y33 IO (io), Y34 IO (io), Y35 IO (io)
part C pins: AL7 IO (io), AL8 IO (io), AL9 IO (io), AL10 IO (io), AL11 IO (io), AL13 IO (io), AL14 IO (io), AL15 IO (io), AL16 IO (io), AL17 VCCIO (power), AL19 VCCIO (power), AL20 IO (io), AL21 IO (io), AL22 IO (io), AL23 IO (io), AL25 IO (io), AL26 IO (io), AL27 IO (io), AL28 IO (io), AL29 IO (io), AM5 VCCIO (power), AM6 IO (io), AM7 IO (io), AM8 IO (io), AM9 IO (io), AM10 IO (io), AM11 IO (io), AM13 IO (io), AM14 IO (io), AM15 IO (io), AM16 IO (io), AM20 IO (io), AM21 IO (io), AM22 IO (io), AM23 IO (io), AM25 IO (io), AM26 IO (io), AM27 IO (io), AM28 IO (io), AM29 IO (io), AM30 IO (io), AN4 VCCIO (power), AN5 IO (io), AN6 IO (io), AN7 IO (io), AN8 IO (io), AN9 IO (io), AN10 IO (io), AN11 IO (io), AN12 IO (io), AN13 IO (io), AN14 IO (io), AN15 IO (io), AN16 IO (io), AN20 IO (io), AN21 IO (io), AN22 IO (io), AN23 IO (io), AN24 IO (io), AN25 IO (io), AN26 IO (io), AN27 IO (io), AN28 IO (io), AN29 IO (io), AN30 IO (io), AN31 IO (io), AN32 VCCIO (power), AN33 VCCIO (power), AP3 IO (io), AP4 IO (io), AP5 IO (io), AP6 IO (io), AP7 IO (io), AP8 IO (io), AP9 IO (io), AP10 IO (io), AP11 IO (io), AP12 IO (io), AP13 IO (io), AP14 IO (io), AP15 IO (io), AP16 IO (io), AP17 INPUT4 (in), AP19 INPUT3 (in), AP20 IO (io), AP21 IO (io), AP22 IO (io), AP23 IO (io), AP24 IO (io), AP25 IO (io), AP26 IO (io), AP27 IO (io), AP28 IO (io), AP29 IO (io), AP30 IO (io), AP31 IO (io), AP32 IO (io), AP33 IO (io), AR2 IO (io), AR3 IO (io), AR4 IO (io), AR5 IO (io), AR6 IO (io), AR7 IO (io), AR8 IO (io), AR9 IO (io), AR10 IO (io), AR11 IO (io), AR12 IO (io), AR13 IO (io), AR14 IO (io), AR15 IO (io), AR16 IO (io), AR20 IO (io), AR21 IO (io), AR22 IO (io), AR23 IO (io), AR24 IO (io), AR25 IO (io), AR26 IO (io), AR27 IO (io), AR28 IO (io), AR29 IO (io), AR30 IO (io), AR31 IO (io), AR32 IO (io), AR33 IO (io), AR34 IO (io)
part D pins: AA1 IO (io), AA2 IO (io), AA3 IO (io), AA5 IO (io), AA6 IO (io), AB1 IO (io), AB2 IO (io), AB3 IO (io), AB4 IO (io), AB5 IO (io), AB6 LOCK (io), AC1 IO (io), AC2 IO (io), AC4 IO (io), AC5 IO (io), AC6 IO (io), AD1 IO (io), AD2 IO (io), AD3 IO (io), AD4 IO (io), AD5 IO (io), AD6 IO (io), AE1 IO (io), AE3 IO (io), AE4 IO (io), AE5 IO (io), AE6 IO (io), AF1 IO (io), AF2 IO (io), AF3 IO (io), AF4 IO (io), AF5 IO (io), AF6 IO (io), AG2 IO (io), AG3 IO (io), AG4 IO (io), AG5 IO (io), AG6 IO (io), AH1 IO (io), AH2 IO (io), AH3 IO (io), AH5 IO (io), AH6 IO (io), AJ1 IO (io), AJ2 IO (io), AJ3 IO (io), AJ4 IO (io), AJ5 IO (io), AJ6 IO (io), AK1 IO (io), AK2 IO (io), AK3 IO (io), AK4 IO (io), AK5 IO (io), AK6 IO (io), AL1 IO (io), AL3 VCCIO (power), AL4 VCCIO (power), AM1 IO (io), C1 IO (io), D1 IO (io), E1 IO (io), E2 IO (io), E3 VCCIO (power), E4 VCCIO (power), F1 IO (io), F2 IO (io), F4 IO (io), F5 IO (io), F6 IO (io), G1 IO (io), G2 IO (io), G3 IO (io), G4 IO (io), G5 IO (io), G6 IO (io), H2 IO (io), H3 IO (io), H4 IO (io), H6 IO (io), J1 IO (io), J2 IO (io), J3 IO (io), J4 IO (io), J5 IO (io), J6 IO (io), K1 IO (io), K2 IO (io), K3 IO (io), K4 IO (io), K5 IO (io), K6 IO (io), L1 IO (io), L2 IO (io), L4 IO (io), L5 IO (io), L6 DATA6 (io), M1 nWS (io), M2 IO (io), M3 IO (io), M4 IO (io), M5 IO (io), M6 DATA7 (io), N1 nRS (io), N2 IO (io), N3 IO (io), N5 IO (io), N6 IO (io), P1 IO (io), P2 nCS (io), P3 IO (io), P4 IO (io), P5 IO (io), P6 IO (io), R1 IO (io), R2 CS (io), R3 IO (io), R4 IO (io), R6 IO (io), T1 IO (io), T2 IO (io), T3 IO (io), T4 IO (io), T5 IO (io), T6 DEV_CLRn (io), U2 CLK2 (in), U6 VCCIO (power), W5 IO (io), W6 VCCIO (power), Y1 IO (io), Y2 IO (io), Y3 IO (io), Y4 IO (io), Y5 DEV_OE (io), Y6 IO (io)
part E pins: AM17 CONF_DONE (io), AM19 TMS (in), AN17 nSTATUS (io), AN19 TCK (in), C17 TDO (out), C19 nCEO (out), D19 TRST (in), U1 nCE (in), U3 DCLK (in), U4 DATA0 (in), U35 MSEL0 (in), W1 TDI (in), W32 nCONFIG (in), W35 MSEL1 (in)
part F pins: A1 GNDINT (power), A17 VCCINT (power), A18 GNDINT (power), A19 VCCINT (power), A35 GNDINT (power), AA4 VCCINT (power), AA31 VCCINT (power), AC3 VCCINT (power), AC32 VCCINT (power), AE2 VCCINT (power), AE33 VCCINT (power), AG1 VCCINT (power), AH4 VCCINT (power), AH31 VCCINT (power), AH35 VCCINT (power), AK18 GNDINT (power), AK33 VCCINT (power), AL2 VCCINT (power), AL5 GNDINT (power), AL6 GNDINT (power), AL12 VCCINT (power), AL18 GNDINT (power), AL24 VCCINT (power), AL30 GNDINT (power), AM2 GNDINT (power), AM3 GNDINT (power), AM4 GNDINT (power), AM12 VCCINT (power), AM18 GNDINT (power), AM24 VCCINT (power), AM31 GNDINT (power), AM32 GNDINT (power), AM33 GNDINT (power), AM34 GNDINT (power), AN1 GNDINT (power), AN2 GNDINT (power), AN3 GNDINT (power), AN18 GNDINT (power), AN34 GNDINT (power), AN35 GNDINT (power), AP1 GNDINT (power), AP2 GNDINT (power), AP18 GNDINT (power), AP34 GNDINT (power), AP35 GNDINT (power), AR1 GNDINT (power), AR17 VCCINT (power), AR18 GNDINT (power), AR19 VCCINT (power), AR35 GNDINT (power), B1 GNDINT (power), B2 GNDINT (power), B18 GNDINT (power), B34 GNDINT (power), B35 GNDINT (power), C2 GNDINT (power), C3 GNDINT (power), C18 GNDINT (power), C33 GNDINT (power), C34 GNDINT (power), C35 GNDINT (power), D2 GNDINT (power), D3 GNDINT (power), D4 GNDINT (power), D12 VCCINT (power), D17 GNDINT (power), D18 GNDINT (power), D24 VCCINT (power), D32 GNDINT (power), D33 GNDINT (power), D34 GNDINT (power), E5 GNDINT (power), E6 GNDINT (power), E12 VCCINT (power), E18 GNDINT (power), E24 VCCINT (power), E30 GNDINT (power), E31 GNDINT (power), E32 GNDINT (power), E33 GNDINT (power), F3 VCCINT (power), F18 GNDINT (power), F35 VCCINT (power), G30 VCCINT (power), H1 VCCINT (power), H5 VCCINT (power), K31 VCCINT (power), L3 VCCINT (power), M30 VCCINT (power), N4 VCCINT (power), N35 VCCINT (power), R5 VCCINT (power), R34 VCCINT (power), U5 VCCINT (power), U34 VCCINT (power), V1 GNDINT (power), V2 GNDINT (power), V3 GNDINT (power), V4 GNDINT (power), V5 GNDINT (power), V6 GNDINT (power), V30 GNDINT (power), V31 GNDINT (power), V32 GNDINT (power), V33 GNDINT (power), V34 GNDINT (power), V35 GNDINT (power), W2 GND_CKLK (power), W3 VCCINT (power), W4 VCC_CKLK (power), W31 VCCINT (power), W33 VCCINT (power)

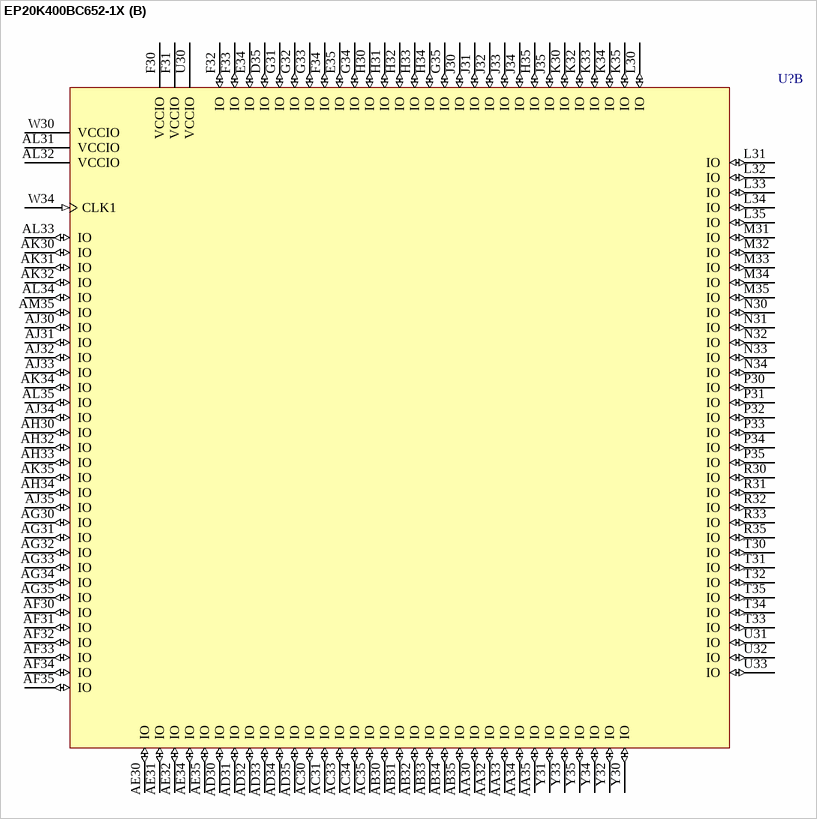
[diagram p97: symbol EP20K400BC652-1X]

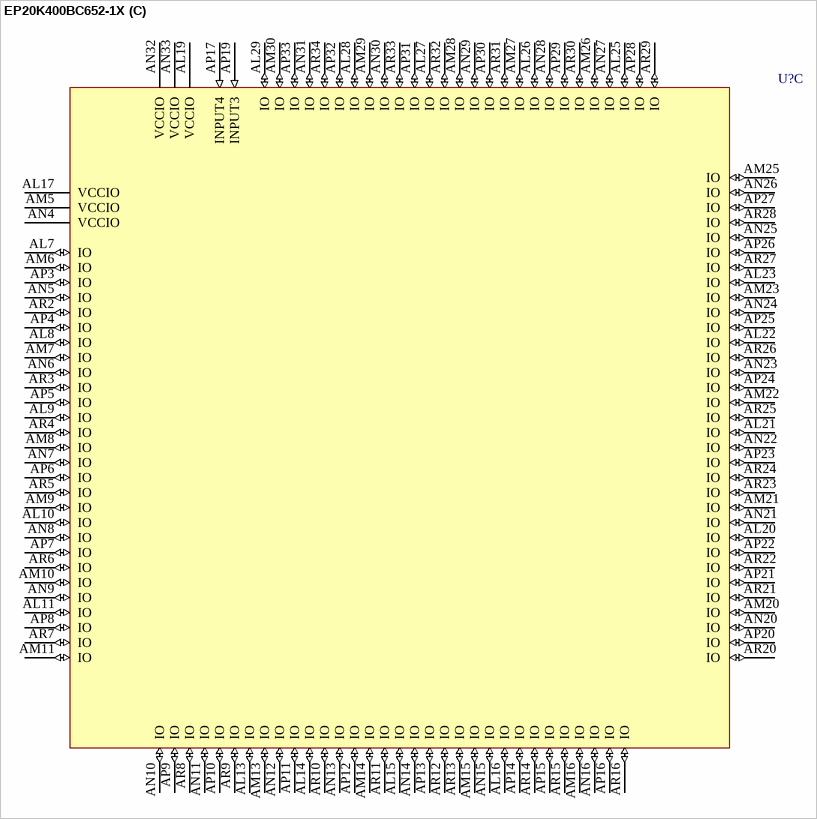
[diagram p98: symbol EP20K400BC652-1X]

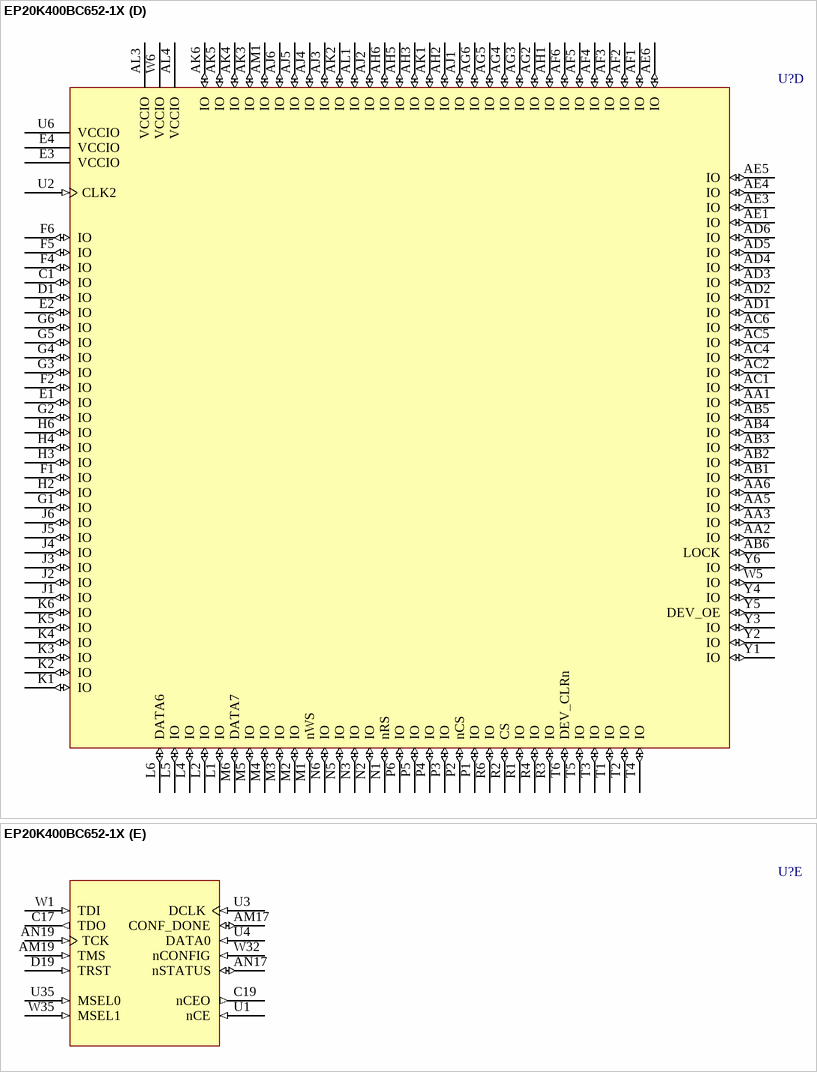
[diagram p99: symbol EP20K400BC652-1X]

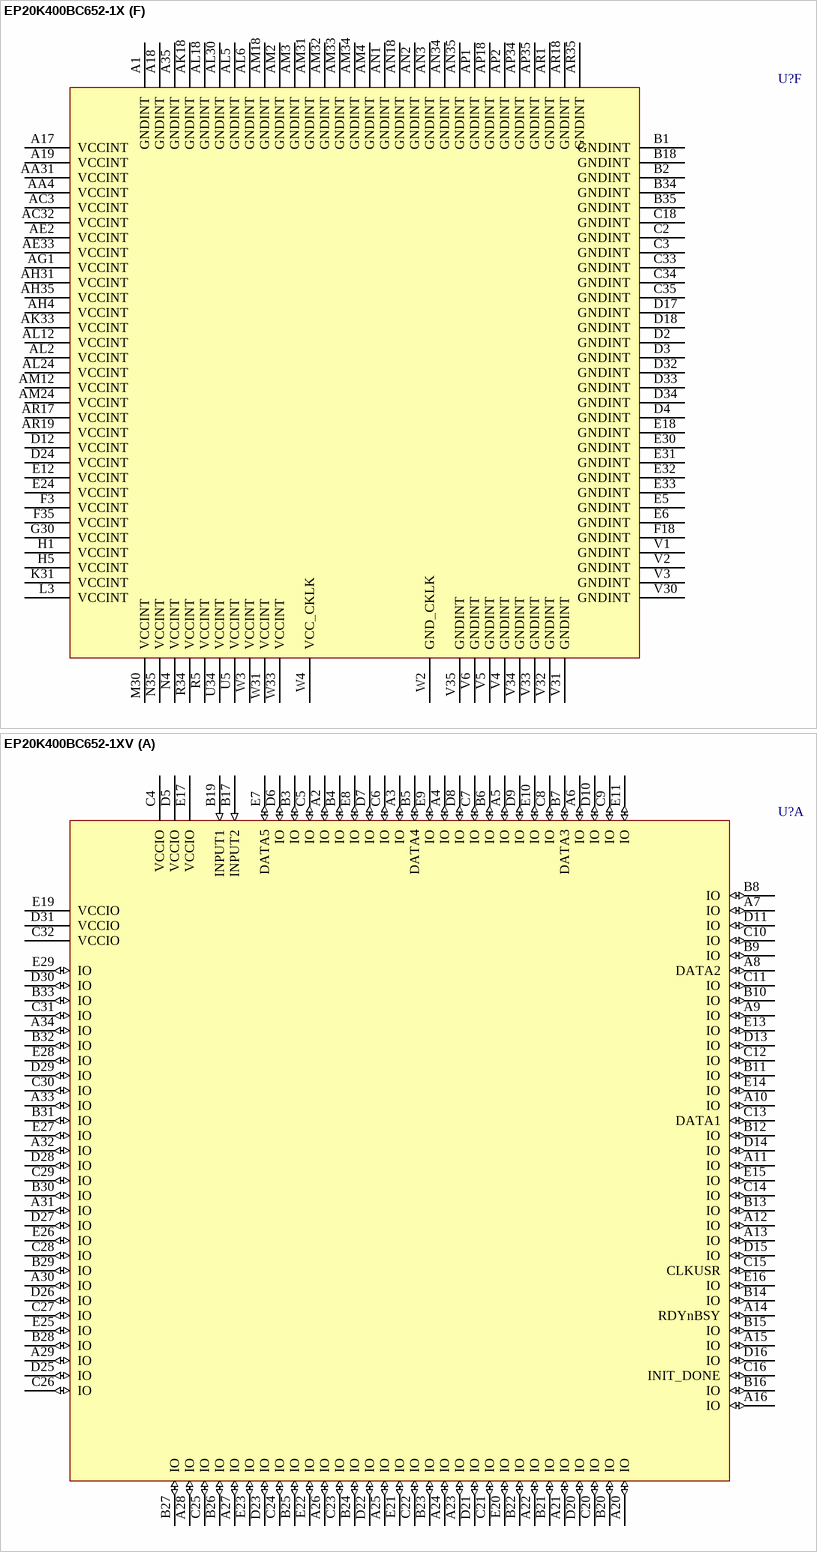
[diagram p100: symbols EP20K400BC652-1X to EP20K400BC652-1XV]

## EP20K400BC652-1X
designator U?
APEX 20K400 PLD with PLLs, 652-Pin BGA, Commercial Grade, Speed Grade 1; Published: 17-Jul-2002; LatestRevisionDate: 13-Apr-2006; LatestRevisionNote: IPC-7351 Footprint Added.; DatasheetVersion: ver5.1, Mar-2004; PackageVersion: ver14.2, Oct-2005; PackageReference: BGA652; Publisher: Altium Limited; PackageDescription: 652-Ball Ball Grid Array (BGA652), Option 1 - Flip Chip; Code_JEDEC: MO-192-BAW-1; ComponentLink1Description: Manufacturer Link; ComponentLink1URL: http://www.altera.com/products/devices/apex/apx-index.html; ComponentLink2Description: Datasheet; ComponentLink2URL: http://www.altera.com/literature/ds/apex.pdf
footprint BGA652 (BGA, 652-Leads, Body 45x45mm, Pitch 1.27mm)
3D model EP20K400-BGA652TD (652-Ball Ball Grid Array (BGA652), Option 1 - Flip Chip)
part A pins: A2 IO (io), A3 IO (io), A4 IO (io), A5 IO (io), A6 IO (io), A7 IO (io), A8 DATA2 (io), A9 IO (io), A10 IO (io), A11 IO (io), A12 IO (io), A13 IO (io), A14 RDYnBSY (io), A15 IO (io), A16 IO (io), A20 IO (io), A21 IO (io), A22 IO (io), A23 IO (io), A24 IO (io), A25 IO (io), A26 IO (io), A27 IO (io), A28 IO (io), A29 IO (io), A30 IO (io), A31 IO (io), A32 IO (io), A33 IO (io), A34 IO (io), B3 IO (io), B4 IO (io), B5 DATA4 (io), B6 IO (io), B7 DATA3 (io), B8 IO (io), B9 IO (io), B10 IO (io), B11 IO (io), B12 IO (io), B13 IO (io), B14 IO (io), B15 IO (io), B16 IO (io), B17 INPUT2 (in), B19 INPUT1 (in), B20 IO (io), B21 IO (io), B22 IO (io), B23 IO (io), B24 IO (io), B25 IO (io), B26 IO (io), B27 IO (io), B28 IO (io), B29 IO (io), B30 IO (io), B31 IO (io), B32 IO (io), B33 IO (io), C4 VCCIO (power), C5 IO (io), C6 IO (io), C7 IO (io), C8 IO (io), C9 IO (io), C10 IO (io), C11 IO (io), C12 IO (io), C13 DATA1 (io), C14 IO (io), C15 CLKUSR (io), C16 INIT_DONE (io), C20 IO (io), C21 IO (io), C22 IO (io), C23 IO (io), C24 IO (io), C25 IO (io), C26 IO (io), C27 IO (io), C28 IO (io), C29 IO (io), C30 IO (io), C31 IO (io), C32 VCCIO (power), D5 VCCIO (power), D6 IO (io), D7 IO (io), D8 IO (io), D9 IO (io), D10 IO (io), D11 IO (io), D13 IO (io), D14 IO (io), D15 IO (io), D16 IO (io), D20 IO (io), D21 IO (io), D22 IO (io), D23 IO (io), D25 IO (io), D26 IO (io), D27 IO (io), D28 IO (io), D29 IO (io), D30 IO (io), D31 VCCIO (power), E7 DATA5 (io), E8 IO (io), E9 IO (io), E10 IO (io), E11 IO (io), E13 IO (io), E14 IO (io), E15 IO (io), E16 IO (io), E17 VCCIO (power), E19 VCCIO (power), E20 IO (io), E21 IO (io), E22 IO (io), E23 IO (io), E25 IO (io), E26 IO (io), E27 IO (io), E28 IO (io), E29 IO (io)
part B pins: AA30 IO (io), AA32 IO (io), AA33 IO (io), AA34 IO (io), AA35 IO (io), AB30 IO (io), AB31 IO (io), AB32 IO (io), AB33 IO (io), AB34 IO (io), AB35 IO (io), AC30 IO (io), AC31 IO (io), AC33 IO (io), AC34 IO (io), AC35 IO (io), AD30 IO (io), AD31 IO (io), AD32 IO (io), AD33 IO (io), AD34 IO (io), AD35 IO (io), AE30 IO (io), AE31 IO (io), AE32 IO (io), AE34 IO (io), AE35 IO (io), AF30 IO (io), AF31 IO (io), AF32 IO (io), AF33 IO (io), AF34 IO (io), AF35 IO (io), AG30 IO (io), AG31 IO (io), AG32 IO (io), AG33 IO (io), AG34 IO (io), AG35 IO (io), AH30 IO (io), AH32 IO (io), AH33 IO (io), AH34 IO (io), AJ30 IO (io), AJ31 IO (io), AJ32 IO (io), AJ33 IO (io), AJ34 IO (io), AJ35 IO (io), AK30 IO (io), AK31 IO (io), AK32 IO (io), AK34 IO (io), AK35 IO (io), AL31 VCCIO (power), AL32 VCCIO (power), AL33 IO (io), AL34 IO (io), AL35 IO (io), AM35 IO (io), D35 IO (io), E34 IO (io), E35 IO (io), F30 VCCIO (power), F31 VCCIO (power), F32 IO (io), F33 IO (io), F34 IO (io), G31 IO (io), G32 IO (io), G33 IO (io), G34 IO (io), G35 IO (io), H30 IO (io), H31 IO (io), H32 IO (io), H33 IO (io), H34 IO (io), H35 IO (io), J30 IO (io), J31 IO (io), J32 IO (io), J33 IO (io), J34 IO (io), J35 IO (io), K30 IO (io), K32 IO (io), K33 IO (io), K34 IO (io), K35 IO (io), L30 IO (io), L31 IO (io), L32 IO (io), L33 IO (io), L34 IO (io), L35 IO (io), M31 IO (io), M32 IO (io), M33 IO (io), M34 IO (io), M35 IO (io), N30 IO (io), N31 IO (io), N32 IO (io), N33 IO (io), N34 IO (io), P30 IO (io), P31 IO (io), P32 IO (io), P33 IO (io), P34 IO (io), P35 IO (io), R30 IO (io), R31 IO (io), R32 IO (io), R33 IO (io), R35 IO (io), T30 IO (io), T31 IO (io), T32 IO (io), T33 IO (io), T34 IO (io), T35 IO (io), U30 VCCIO (power), U31 IO (io), U32 IO (io), U33 IO (io), W30 VCCIO (power), W34 CLK1 (in), Y30 IO (io), Y31 IO (io), Y32 IO (io), Y33 IO (io), Y34 IO (io), Y35 IO (io)
part C pins: AL7 IO (io), AL8 IO (io), AL9 IO (io), AL10 IO (io), AL11 IO (io), AL13 IO (io), AL14 IO (io), AL15 IO (io), AL16 IO (io), AL17 VCCIO (power), AL19 VCCIO (power), AL20 IO (io), AL21 IO (io), AL22 IO (io), AL23 IO (io), AL25 IO (io), AL26 IO (io), AL27 IO (io), AL28 IO (io), AL29 IO (io), AM5 VCCIO (power), AM6 IO (io), AM7 IO (io), AM8 IO (io), AM9 IO (io), AM10 IO (io), AM11 IO (io), AM13 IO (io), AM14 IO (io), AM15 IO (io), AM16 IO (io), AM20 IO (io), AM21 IO (io), AM22 IO (io), AM23 IO (io), AM25 IO (io), AM26 IO (io), AM27 IO (io), AM28 IO (io), AM29 IO (io), AM30 IO (io), AN4 VCCIO (power), AN5 IO (io), AN6 IO (io), AN7 IO (io), AN8 IO (io), AN9 IO (io), AN10 IO (io), AN11 IO (io), AN12 IO (io), AN13 IO (io), AN14 IO (io), AN15 IO (io), AN16 IO (io), AN20 IO (io), AN21 IO (io), AN22 IO (io), AN23 IO (io), AN24 IO (io), AN25 IO (io), AN26 IO (io), AN27 IO (io), AN28 IO (io), AN29 IO (io), AN30 IO (io), AN31 IO (io), AN32 VCCIO (power), AN33 VCCIO (power), AP3 IO (io), AP4 IO (io), AP5 IO (io), AP6 IO (io), AP7 IO (io), AP8 IO (io), AP9 IO (io), AP10 IO (io), AP11 IO (io), AP12 IO (io), AP13 IO (io), AP14 IO (io), AP15 IO (io), AP16 IO (io), AP17 INPUT4 (in), AP19 INPUT3 (in), AP20 IO (io), AP21 IO (io), AP22 IO (io), AP23 IO (io), AP24 IO (io), AP25 IO (io), AP26 IO (io), AP27 IO (io), AP28 IO (io), AP29 IO (io), AP30 IO (io), AP31 IO (io), AP32 IO (io), AP33 IO (io), AR2 IO (io), AR3 IO (io), AR4 IO (io), AR5 IO (io), AR6 IO (io), AR7 IO (io), AR8 IO (io), AR9 IO (io), AR10 IO (io), AR11 IO (io), AR12 IO (io), AR13 IO (io), AR14 IO (io), AR15 IO (io), AR16 IO (io), AR20 IO (io), AR21 IO (io), AR22 IO (io), AR23 IO (io), AR24 IO (io), AR25 IO (io), AR26 IO (io), AR27 IO (io), AR28 IO (io), AR29 IO (io), AR30 IO (io), AR31 IO (io), AR32 IO (io), AR33 IO (io), AR34 IO (io)
part D pins: AA1 IO (io), AA2 IO (io), AA3 IO (io), AA5 IO (io), AA6 IO (io), AB1 IO (io), AB2 IO (io), AB3 IO (io), AB4 IO (io), AB5 IO (io), AB6 LOCK (io), AC1 IO (io), AC2 IO (io), AC4 IO (io), AC5 IO (io), AC6 IO (io), AD1 IO (io), AD2 IO (io), AD3 IO (io), AD4 IO (io), AD5 IO (io), AD6 IO (io), AE1 IO (io), AE3 IO (io), AE4 IO (io), AE5 IO (io), AE6 IO (io), AF1 IO (io), AF2 IO (io), AF3 IO (io), AF4 IO (io), AF5 IO (io), AF6 IO (io), AG2 IO (io), AG3 IO (io), AG4 IO (io), AG5 IO (io), AG6 IO (io), AH1 IO (io), AH2 IO (io), AH3 IO (io), AH5 IO (io), AH6 IO (io), AJ1 IO (io), AJ2 IO (io), AJ3 IO (io), AJ4 IO (io), AJ5 IO (io), AJ6 IO (io), AK1 IO (io), AK2 IO (io), AK3 IO (io), AK4 IO (io), AK5 IO (io), AK6 IO (io), AL1 IO (io), AL3 VCCIO (power), AL4 VCCIO (power), AM1 IO (io), C1 IO (io), D1 IO (io), E1 IO (io), E2 IO (io), E3 VCCIO (power), E4 VCCIO (power), F1 IO (io), F2 IO (io), F4 IO (io), F5 IO (io), F6 IO (io), G1 IO (io), G2 IO (io), G3 IO (io), G4 IO (io), G5 IO (io), G6 IO (io), H2 IO (io), H3 IO (io), H4 IO (io), H6 IO (io), J1 IO (io), J2 IO (io), J3 IO (io), J4 IO (io), J5 IO (io), J6 IO (io), K1 IO (io), K2 IO (io), K3 IO (io), K4 IO (io), K5 IO (io), K6 IO (io), L1 IO (io), L2 IO (io), L4 IO (io), L5 IO (io), L6 DATA6 (io), M1 nWS (io), M2 IO (io), M3 IO (io), M4 IO (io), M5 IO (io), M6 DATA7 (io), N1 nRS (io), N2 IO (io), N3 IO (io), N5 IO (io), N6 IO (io), P1 IO (io), P2 nCS (io), P3 IO (io), P4 IO (io), P5 IO (io), P6 IO (io), R1 IO (io), R2 CS (io), R3 IO (io), R4 IO (io), R6 IO (io), T1 IO (io), T2 IO (io), T3 IO (io), T4 IO (io), T5 IO (io), T6 DEV_CLRn (io), U2 CLK2 (in), U6 VCCIO (power), W5 IO (io), W6 VCCIO (power), Y1 IO (io), Y2 IO (io), Y3 IO (io), Y4 IO (io), Y5 DEV_OE (io), Y6 IO (io)
part E pins: AM17 CONF_DONE (io), AM19 TMS (in), AN17 nSTATUS (io), AN19 TCK (in), C17 TDO (out), C19 nCEO (out), D19 TRST (in), U1 nCE (in), U3 DCLK (in), U4 DATA0 (in), U35 MSEL0 (in), W1 TDI (in), W32 nCONFIG (in), W35 MSEL1 (in)
part F pins: A1 GNDINT (power), A17 VCCINT (power), A18 GNDINT (power), A19 VCCINT (power), A35 GNDINT (power), AA4 VCCINT (power), AA31 VCCINT (power), AC3 VCCINT (power), AC32 VCCINT (power), AE2 VCCINT (power), AE33 VCCINT (power), AG1 VCCINT (power), AH4 VCCINT (power), AH31 VCCINT (power), AH35 VCCINT (power), AK18 GNDINT (power), AK33 VCCINT (power), AL2 VCCINT (power), AL5 GNDINT (power), AL6 GNDINT (power), AL12 VCCINT (power), AL18 GNDINT (power), AL24 VCCINT (power), AL30 GNDINT (power), AM2 GNDINT (power), AM3 GNDINT (power), AM4 GNDINT (power), AM12 VCCINT (power), AM18 GNDINT (power), AM24 VCCINT (power), AM31 GNDINT (power), AM32 GNDINT (power), AM33 GNDINT (power), AM34 GNDINT (power), AN1 GNDINT (power), AN2 GNDINT (power), AN3 GNDINT (power), AN18 GNDINT (power), AN34 GNDINT (power), AN35 GNDINT (power), AP1 GNDINT (power), AP2 GNDINT (power), AP18 GNDINT (power), AP34 GNDINT (power), AP35 GNDINT (power), AR1 GNDINT (power), AR17 VCCINT (power), AR18 GNDINT (power), AR19 VCCINT (power), AR35 GNDINT (power), B1 GNDINT (power), B2 GNDINT (power), B18 GNDINT (power), B34 GNDINT (power), B35 GNDINT (power), C2 GNDINT (power), C3 GNDINT (power), C18 GNDINT (power), C33 GNDINT (power), C34 GNDINT (power), C35 GNDINT (power), D2 GNDINT (power), D3 GNDINT (power), D4 GNDINT (power), D12 VCCINT (power), D17 GNDINT (power), D18 GNDINT (power), D24 VCCINT (power), D32 GNDINT (power), D33 GNDINT (power), D34 GNDINT (power), E5 GNDINT (power), E6 GNDINT (power), E12 VCCINT (power), E18 GNDINT (power), E24 VCCINT (power), E30 GNDINT (power), E31 GNDINT (power), E32 GNDINT (power), E33 GNDINT (power), F3 VCCINT (power), F18 GNDINT (power), F35 VCCINT (power), G30 VCCINT (power), H1 VCCINT (power), H5 VCCINT (power), K31 VCCINT (power), L3 VCCINT (power), M30 VCCINT (power), N4 VCCINT (power), N35 VCCINT (power), R5 VCCINT (power), R34 VCCINT (power), U5 VCCINT (power), U34 VCCINT (power), V1 GNDINT (power), V2 GNDINT (power), V3 GNDINT (power), V4 GNDINT (power), V5 GNDINT (power), V6 GNDINT (power), V30 GNDINT (power), V31 GNDINT (power), V32 GNDINT (power), V33 GNDINT (power), V34 GNDINT (power), V35 GNDINT (power), W2 GND_CKLK (power), W3 VCCINT (power), W4 VCC_CKLK (power), W31 VCCINT (power), W33 VCCINT (power)

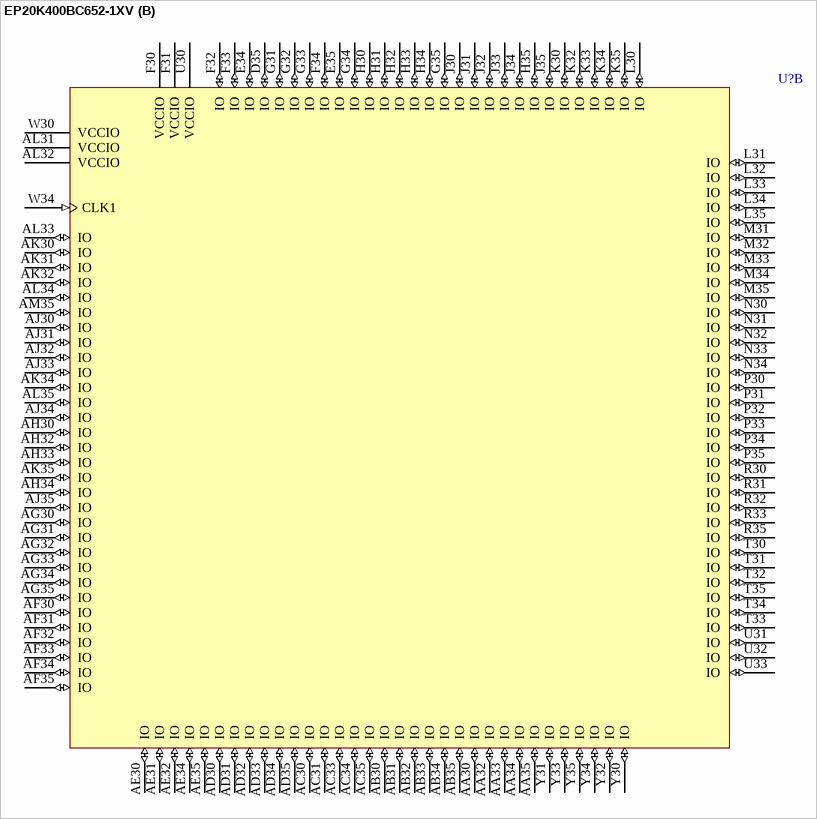
[diagram p101: symbol EP20K400BC652-1XV]

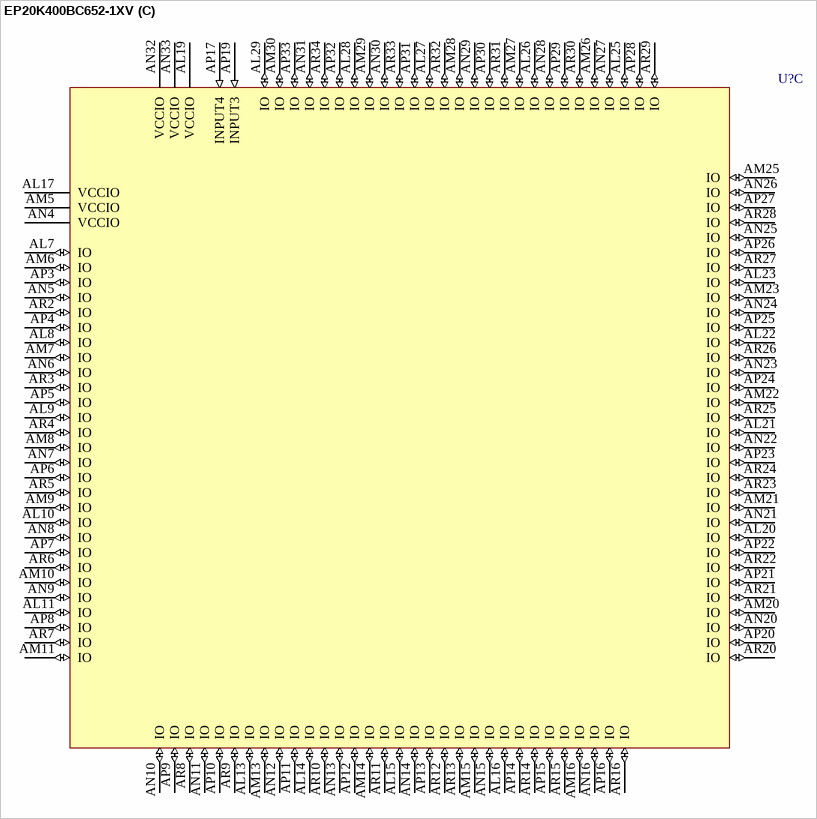
[diagram p102: symbol EP20K400BC652-1XV]

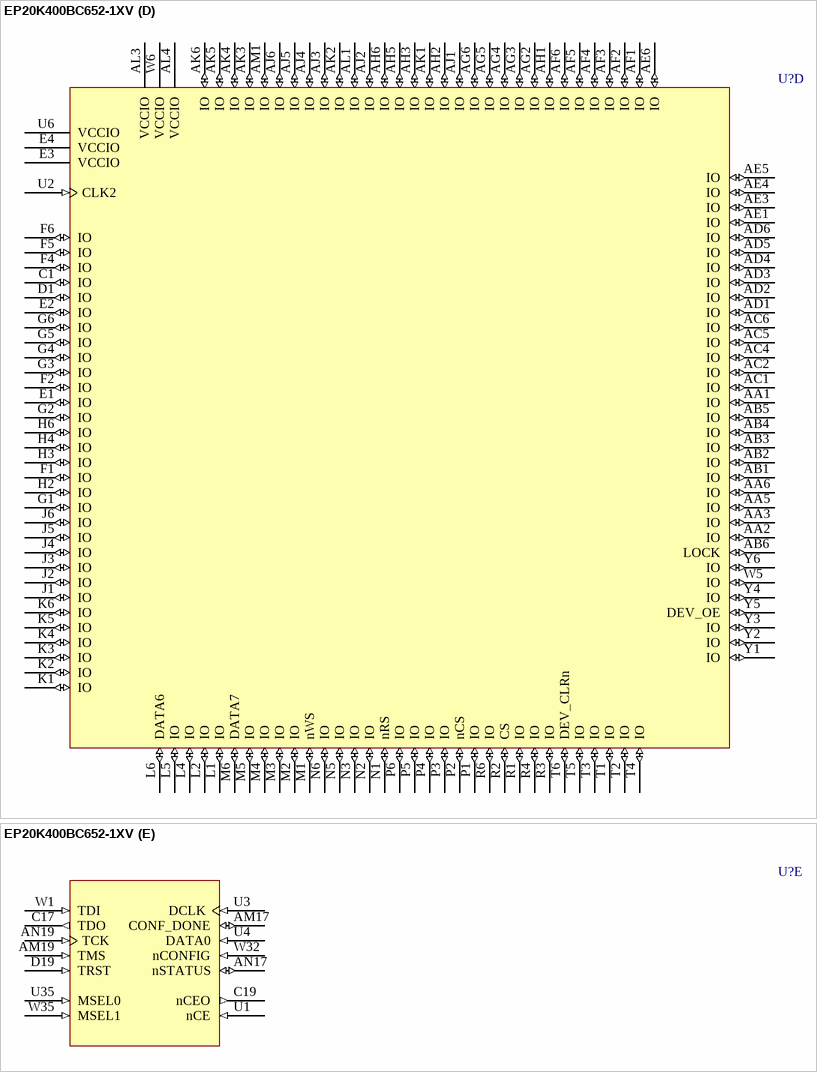
[diagram p103: symbol EP20K400BC652-1XV]

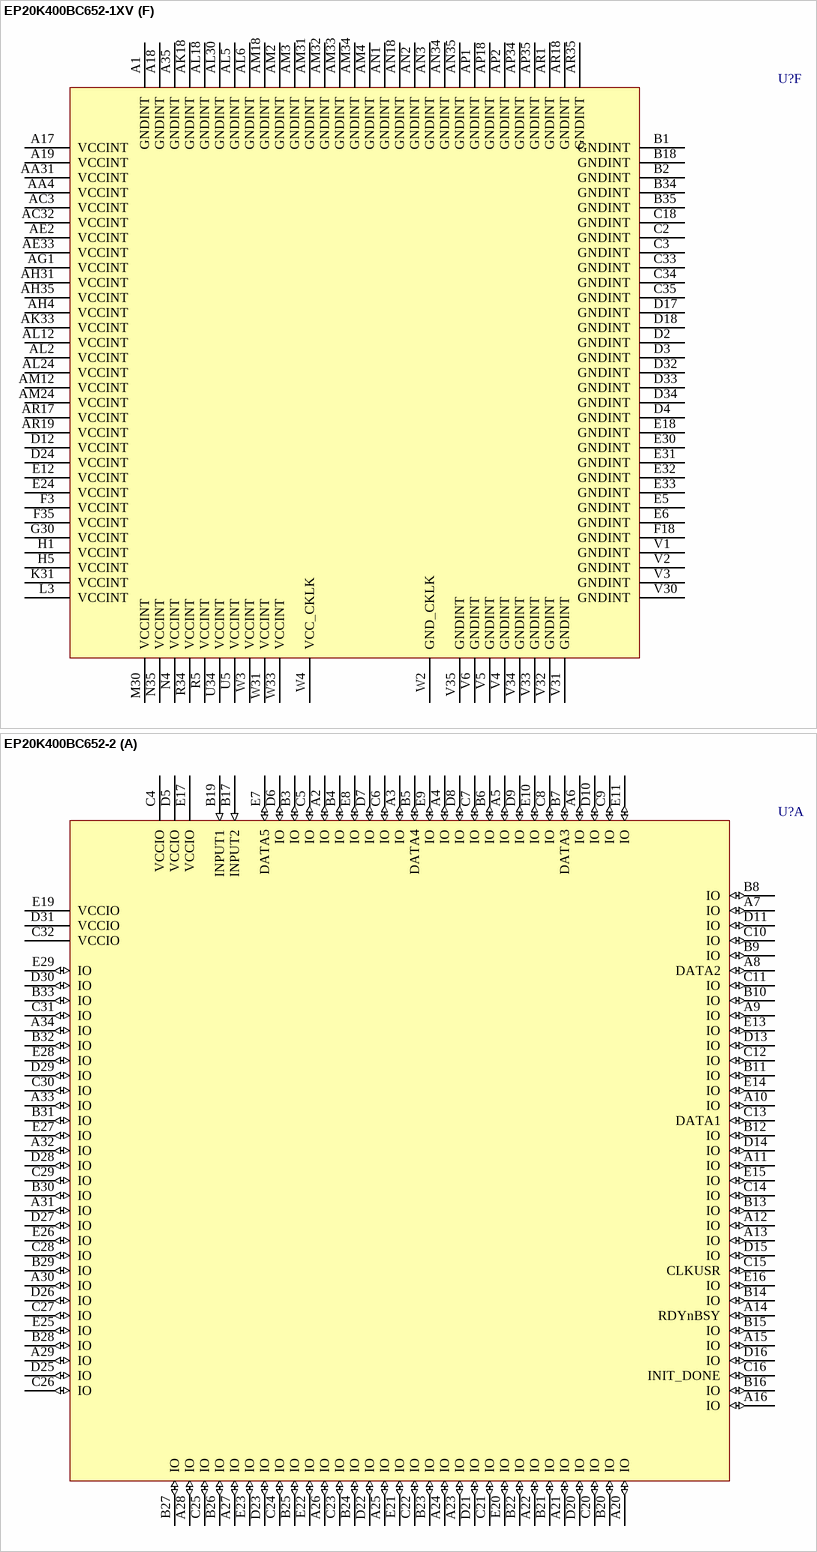
[diagram p104: symbols EP20K400BC652-1XV to EP20K400BC652-2]